# Altium integrated library Xilinx Spartan-3.IntLib: 174 symbols (part 7 of 42)
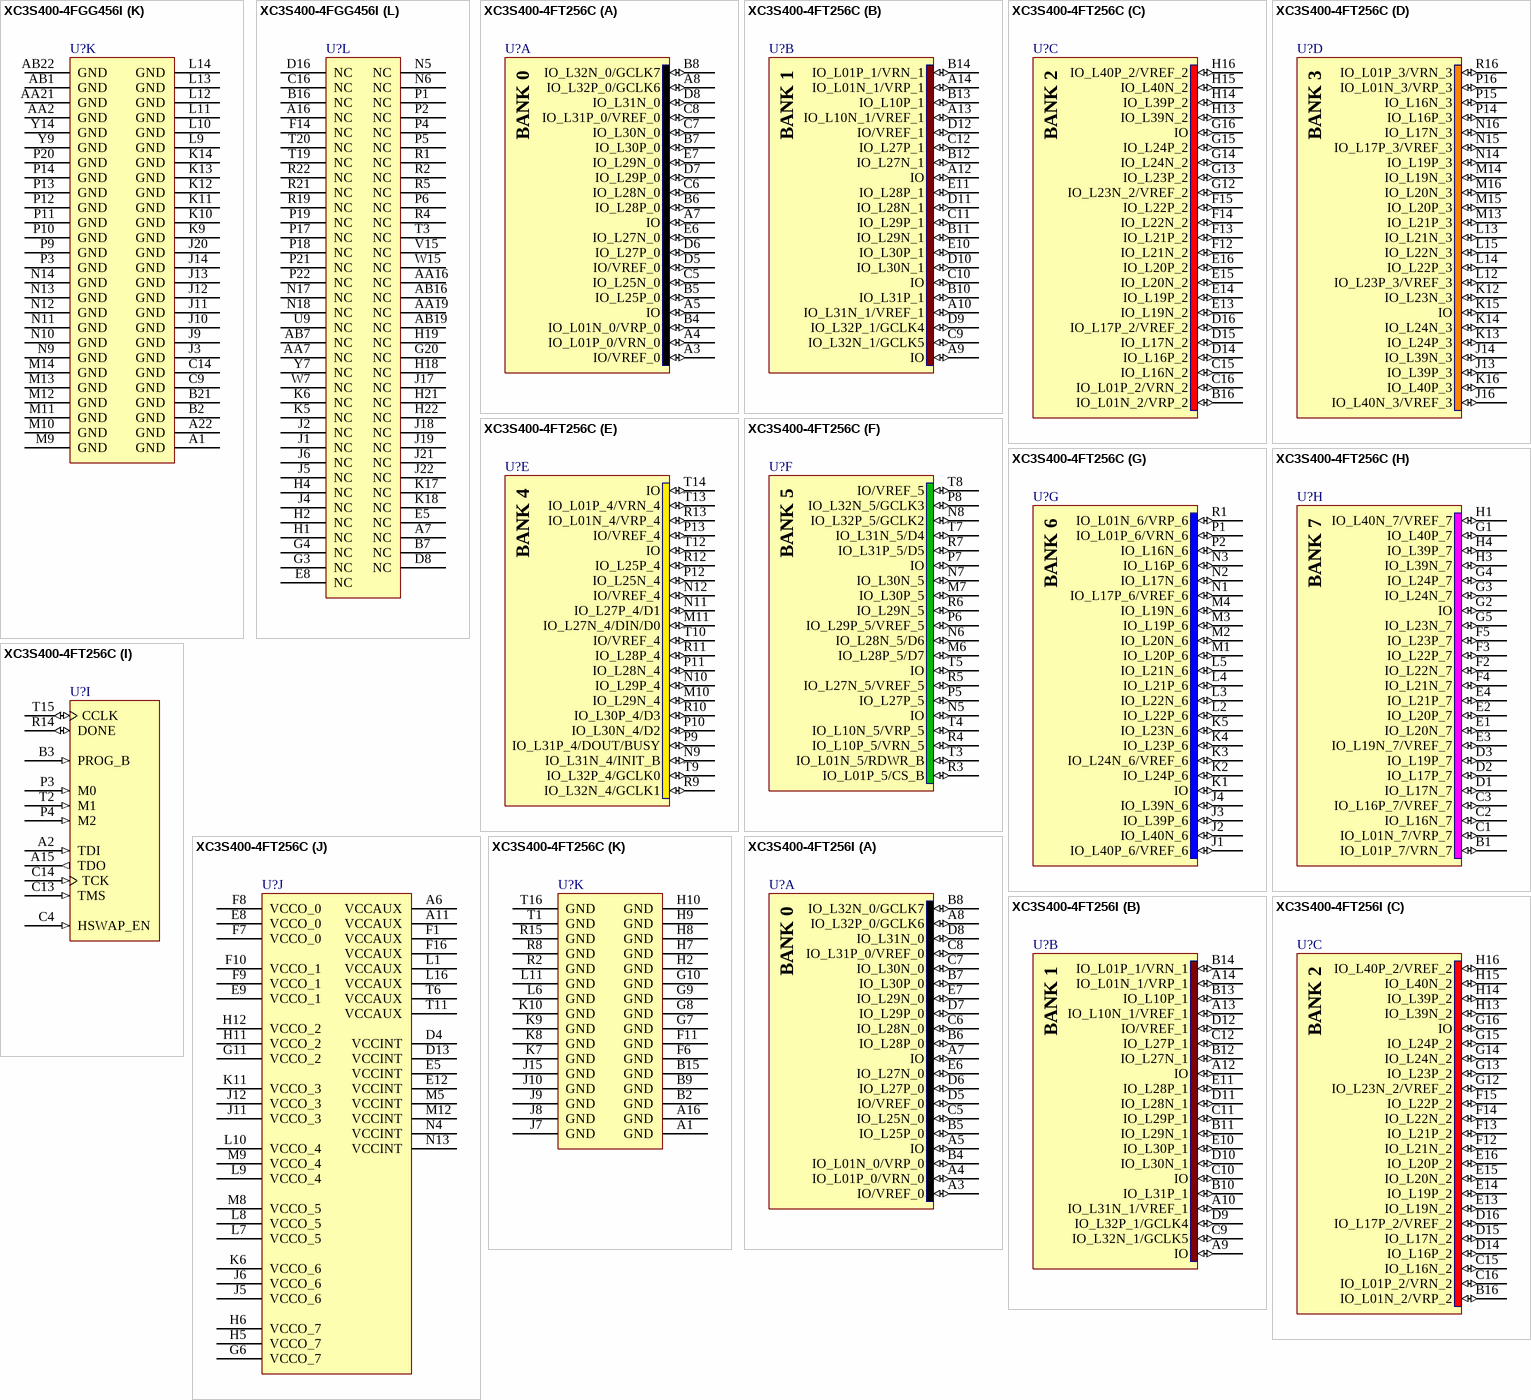
[diagram p198: symbols XC3S400-4FGG456I to XC3S400-4FT256I]

## XC3S400-4FGG456I
designator U?
Spartan-3 1.2V FPGA, 264 User I/Os, 456-Ball FBGA, Standard Performance, Industrial Grade, Pb-Free; OrderingInformation: Additional code may have to be appended for different mask revision devices.; DatasheetVersion: ver2.5, Dec-2009; PackageVersion: ver1.2.1, Mar-2005; PackageReference: FGG456; PackageDescription: 456-Ball Fine Pitch Ball Grid Array (FGG456) - Pb-Free; Code_JEDEC: MO-151-AAJ-1 (Depopulated); ComponentLink1Description: Manufacturer URL; ComponentLink1URL: http://www.xilinx.com/; ComponentLink2Description: Spartan-3 Datasheet; ComponentLink2URL: http://www.xilinx.com/support/documentation/data_sheets/ds099.pdf; ComponentLink3Description: FGG456 Package Drawing; ComponentLink3URL: http://www.xilinx.com/support/documentation/package_specs/fg456.pdf; ComponentLink4Description: Spartan-3 Documents; ComponentLink4URL: http://www.xilinx.com/support/documentation/spartan-3.htm
footprint FGG456 (BGA, 456-Leads, Body 23x23mm, Pitch 1mm)
part A pins: A3 IO/VREF_0 (io), A4 IO_L01P_0/VRN_0 (io), A5 IO_L09P_0 (io), A8 IO_L24P_0 (io), A9 IO_L27P_0 (io), A10 IO (io), A11 IO_L32P_0/GCLK6 (io), B4 IO_L01N_0/VRP_0 (io), B5 IO_L09N_0 (io), B6 IO_L15P_0 (io), B8 IO_L24N_0 (io), B9 IO_L27N_0 (io), B10 IO_L29P_0 (io), B11 IO_L32N_0/GCLK7 (io), C5 IO_L06P_0 (io), C6 IO_L15N_0 (io), C7 IO/VREF_0 (io), C10 IO_L29N_0 (io), C11 IO_L31P_0/VREF_0 (io), D5 IO_L06N_0 (io), D6 IO_L10P_0 (io), D7 IO_L16P_0 (io), D9 IO (io), D10 IO (io), D11 IO_L31N_0 (io), E6 IO_L10N_0 (io), E7 IO_L16N_0 (io), E9 IO_L25P_0 (io), E10 IO_L28P_0 (io), E11 IO_L30P_0 (io), F6 IO (io), F7 IO/VREF_0 (io), F9 IO_L25N_0 (io), F10 IO_L28N_0 (io), F11 IO_L30N_0 (io)
part B pins: A12 IO (io), A13 IO_L30N_1 (io), A14 IO_L28N_1 (io), A15 IO_L25P_1 (io), A18 IO_L10N_1/VREF_1 (io), A19 IO_L06N_1/VREF_1 (io), B12 IO_L32N_1/GCLK5 (io), B13 IO_L30P_1 (io), B14 IO_L28P_1 (io), B15 IO_L25N_1 (io), B17 IO_L16N_1 (io), B18 IO_L10P_1 (io), B19 IO_L06P_1 (io), B20 IO_L01P_1/VRN_1 (io), C12 IO_L32P_1/GCLK4 (io), C13 IO_L29N_1 (io), C17 IO_L16P_1 (io), C18 IO_L09N_1 (io), C19 IO_L01N_1/VRP_1 (io), D12 IO_L31N_1/VREF_1 (io), D13 IO_L29P_1 (io), D14 IO_L27N_1 (io), D15 IO_L24N_1 (io), D17 IO_L15N_1 (io), D18 IO_L09P_1 (io), E12 IO_L31P_1 (io), E13 IO/VREF_1 (io), E14 IO_L27P_1 (io), E15 IO_L24P_1 (io), E16 IO (io), E17 IO_L15P_1 (io), F12 IO (io), F13 IO (io), F16 IO (io), F17 IO (io)
part C pins: C20 IO_L01N_2/VRP_2 (io), C21 IO_L01P_2/VRN_2 (io), C22 IO (io), D19 IO_L16P_2 (io), D20 IO_L16N_2 (io), D21 IO_L17N_2 (io), D22 IO_L17P_2/VREF_2 (io), E18 IO_L19N_2 (io), E19 IO_L20N_2 (io), E20 IO_L20P_2 (io), E21 IO_L21N_2 (io), E22 IO_L21P_2 (io), F18 IO_L19P_2 (io), F19 IO_L23N_2/VREF_2 (io), F20 IO_L24N_2 (io), F21 IO_L24P_2 (io), G17 IO_L22N_2 (io), G18 IO_L22P_2 (io), G19 IO_L23P_2 (io), G21 IO_L27N_2 (io), G22 IO_L27P_2 (io), K19 IO_L34N_2/VREF_2 (io), K20 IO_L34P_2 (io), K21 IO_L35N_2 (io), K22 IO_L35P_2 (io), L17 IO_L38N_2 (io), L18 IO_L38P_2 (io), L19 IO_L39N_2 (io), L20 IO_L39P_2 (io), L21 IO_L40N_2 (io), L22 IO_L40P_2/VREF_2 (io)
part D pins: M17 IO_L38P_3 (io), M18 IO_L38N_3 (io), M19 IO_L39P_3 (io), M20 IO_L39N_3 (io), M21 IO_L40P_3 (io), M22 IO_L40N_3/VREF_3 (io), N19 IO_L34P_3/VREF_3 (io), N20 IO_L34N_3 (io), N21 IO_L35P_3 (io), N22 IO_L35N_3 (io), R18 IO_L24N_3 (io), T17 IO_L22N_3 (io), T18 IO_L24P_3 (io), T21 IO_L27P_3 (io), T22 IO_L27N_3 (io), U18 IO_L22P_3 (io), U19 IO_L20N_3 (io), U20 IO_L23P_3/VREF_3 (io), U21 IO_L23N_3 (io), V19 IO_L17N_3 (io), V20 IO_L20P_3 (io), V21 IO_L21P_3 (io), V22 IO_L21N_3 (io), W19 IO_L17P_3/VREF_3 (io), W20 IO_L19P_3 (io), W21 IO_L19N_3 (io), W22 IO_L16N_3 (io), Y19 IO_L01P_3/VRN_3 (io), Y20 IO_L01N_3/VRP_3 (io), Y21 IO (io), Y22 IO_L16P_3 (io)
part E pins: AA12 IO_L32N_4/GCLK1 (io), AA13 IO_L29P_4 (io), AA14 IO_L27N_4/DIN/D0 (io), AA15 IO_L24N_4 (io), AA17 IO_L15P_4 (io), AA18 IO_L09N_4 (io), AA20 IO_L01N_4/VRP_4 (io), AB12 IO_L32P_4/GCLK0 (io), AB13 IO/VREF_4 (io), AB14 IO_L27P_4/D1 (io), AB15 IO_L24P_4 (io), AB18 IO_L09P_4 (io), AB20 IO_L01P_4/VRN_4 (io), U12 IO_L30N_4/D2 (io), U13 IO_L28N_4 (io), U14 IO_L25N_4 (io), U16 IO (io), U17 IO (io), V12 IO_L30P_4/D3 (io), V13 IO_L28P_4 (io), V14 IO_L25P_4 (io), V16 IO_L16N_4 (io), V17 IO_L10N_4 (io), V18 IO/VREF_4 (io), W12 IO_L31N_4/INIT_B (io), W13 IO (io), W14 IO (io), W16 IO_L16P_4 (io), W17 IO_L10P_4 (io), W18 IO_L06N_4/VREF_4 (io), Y12 IO_L31P_4/DOUT/BUSY (io), Y13 IO_L29N_4 (io), Y16 IO/VREF_4 (io), Y17 IO_L15N_4 (io), Y18 IO_L06P_4 (io)
part F pins: AA3 IO_L01P_5/CS_B (io), AA4 IO_L06P_5 (io), AA5 IO_L10P_5/VRN_5 (io), AA6 IO_L16N_5 (io), AA8 IO_L25P_5 (io), AA9 IO_L28P_5/D7 (io), AA10 IO_L30P_5 (io), AA11 IO_L32N_5/GCLK3 (io), AB4 IO_L06N_5 (io), AB5 IO_L10N_5/VRP_5 (io), AB8 IO_L25N_5 (io), AB9 IO_L28N_5/D6 (io), AB10 IO_L30N_5 (io), AB11 IO/VREF_5 (io), U6 IO/VREF_5 (io), U7 IO (io), U10 IO (io), U11 IO (io), V6 IO_L15P_5 (io), V7 IO (io), V8 IO_L24P_5 (io), V9 IO_L27P_5 (io), V10 IO (io), V11 IO_L31P_5/D5 (io), W5 IO_L09P_5 (io), W6 IO_L15N_5 (io), W8 IO_L24N_5 (io), W9 IO_L27N_5/VREF_5 (io), W10 IO_L29P_5/VREF_5 (io), W11 IO_L31N_5/D4 (io), Y4 IO_L01N_5/RDWR_B (io), Y5 IO_L09N_5 (io), Y6 IO_L16P_5 (io), Y10 IO_L29N_5 (io), Y11 IO_L32P_5/GCLK2 (io)
part G pins: M1 IO_L40P_6/VREF_6 (io), M2 IO_L40N_6 (io), M3 IO_L39P_6 (io), M4 IO_L39N_6 (io), M5 IO_L38P_6 (io), M6 IO_L38N_6 (io), N1 IO_L35P_6 (io), N2 IO_L35N_6 (io), N3 IO_L34P_6 (io), N4 IO_L34N_6/VREF_6 (io), T1 IO_L27P_6 (io), T2 IO_L27N_6 (io), T4 IO_L23P_6 (io), T5 IO_L22P_6 (io), T6 IO_L22N_6 (io), U2 IO_L24P_6 (io), U3 IO_L24N_6/VREF_6 (io), U4 IO_L23N_6 (io), U5 IO_L19P_6 (io), V1 IO_L21P_6 (io), V2 IO_L21N_6 (io), V3 IO_L20P_6 (io), V4 IO_L20N_6 (io), V5 IO_L19N_6 (io), W1 IO_L17P_6/VREF_6 (io), W2 IO_L17N_6 (io), W3 IO_L16P_6 (io), W4 IO_L16N_6 (io), Y1 IO (io), Y2 IO_L01P_6/VRN_6 (io), Y3 IO_L01N_6/VRP_6 (io)
part H pins: C1 IO_L16P_7/VREF_7 (io), C2 IO (io), C3 IO_L01N_7/VRP_7 (io), C4 IO_L01P_7/VRN_7 (io), D1 IO_L16N_7 (io), D2 IO_L19P_7 (io), D3 IO_L19N_7/VREF_7 (io), D4 IO_L17P_7 (io), E1 IO_L21N_7 (io), E2 IO_L21P_7 (io), E3 IO_L20P_7 (io), E4 IO_L17N_7 (io), F2 IO_L23N_7 (io), F3 IO_L23P_7 (io), F4 IO_L20N_7 (io), F5 IO_L22P_7 (io), G1 IO_L27N_7 (io), G2 IO_L27P_7/VREF_7 (io), G5 IO_L24P_7 (io), G6 IO_L22N_7 (io), H5 IO_L24N_7 (io), K1 IO_L35N_7 (io), K2 IO_L35P_7 (io), K3 IO_L34N_7 (io), K4 IO_L34P_7 (io), L1 IO_L40N_7/VREF_7 (io), L2 IO_L40P_7 (io), L3 IO_L39N_7 (io), L4 IO_L39P_7 (io), L5 IO_L38N_7 (io), L6 IO_L38P_7 (io)
part I pins: A2 PROG_B (in), A20 TMS (in), A21 TCK (in), AA1 M1 (in), AA22 CCLK (io), AB2 M0 (in), AB3 M2 (in), AB21 DONE (io), B1 TDI (in), B3 HSWAP_EN (in), B22 TDO (out)
part J pins: A6 VCCAUX (power), A17 VCCAUX (power), AB6 VCCAUX (power), AB17 VCCAUX (power), C8 VCCO_0 (power), C15 VCCO_1 (power), F1 VCCAUX (power), F8 VCCO_0 (power), F15 VCCO_1 (power), F22 VCCAUX (power), G7 VCCINT (power), G8 VCCINT (power), G9 VCCO_0 (power), G10 VCCO_0 (power), G11 VCCO_0 (power), G12 VCCO_1 (power), G13 VCCO_1 (power), G14 VCCO_1 (power), G15 VCCINT (power), G16 VCCINT (power), H3 VCCO_7 (power), H6 VCCO_7 (power), H7 VCCINT (power), H16 VCCINT (power), H17 VCCO_2 (power), H20 VCCO_2 (power), J7 VCCO_7 (power), J16 VCCO_2 (power), K7 VCCO_7 (power), K16 VCCO_2 (power), L7 VCCO_7 (power), L16 VCCO_2 (power), M7 VCCO_6 (power), M16 VCCO_3 (power), N7 VCCO_6 (power), N16 VCCO_3 (power), P7 VCCO_6 (power), P16 VCCO_3 (power), R3 VCCO_6 (power), R6 VCCO_6 (power), R7 VCCINT (power), R16 VCCINT (power), R17 VCCO_3 (power), R20 VCCO_3 (power), T7 VCCINT (power), T8 VCCINT (power), T9 VCCO_5 (power), T10 VCCO_5 (power), T11 VCCO_5 (power), T12 VCCO_4 (power), T13 VCCO_4 (power), T14 VCCO_4 (power), T15 VCCINT (power), T16 VCCINT (power), U1 VCCAUX (power), U8 VCCO_5 (power), U15 VCCO_4 (power), U22 VCCAUX (power), Y8 VCCO_5 (power), Y15 VCCO_4 (power)
part K pins: A1 GND (power), A22 GND (power), AA2 GND (power), AA21 GND (power), AB1 GND (power), AB22 GND (power), B2 GND (power), B21 GND (power), C9 GND (power), C14 GND (power), J3 GND (power), J9 GND (power), J10 GND (power), J11 GND (power), J12 GND (power), J13 GND (power), J14 GND (power), J20 GND (power), K9 GND (power), K10 GND (power), K11 GND (power), K12 GND (power), K13 GND (power), K14 GND (power), L9 GND (power), L10 GND (power), L11 GND (power), L12 GND (power), L13 GND (power), L14 GND (power), M9 GND (power), M10 GND (power), M11 GND (power), M12 GND (power), M13 GND (power), M14 GND (power), N9 GND (power), N10 GND (power), N11 GND (power), N12 GND (power), N13 GND (power), N14 GND (power), P3 GND (power), P9 GND (power), P10 GND (power), P11 GND (power), P12 GND (power), P13 GND (power), P14 GND (power), P20 GND (power), Y9 GND (power), Y14 GND (power)
part L pins: A7 NC, A16 NC, AA7 NC, AA16 NC, AA19 NC, AB7 NC, AB16 NC, AB19 NC, B7 NC, B16 NC, C16 NC, D8 NC, D16 NC, E5 NC, E8 NC, F14 NC, G3 NC, G4 NC, G20 NC, H1 NC, H2 NC, H4 NC, H18 NC, H19 NC, H21 NC, H22 NC, J1 NC, J2 NC, J4 NC, J5 NC, J6 NC, J17 NC, J18 NC, J19 NC, J21 NC, J22 NC, K5 NC, K6 NC, K17 NC, K18 NC, N5 NC, N6 NC, N17 NC, N18 NC, P1 NC, P2 NC, P4 NC, P5 NC, P6 NC, P17 NC, P18 NC, P19 NC, P21 NC, P22 NC, R1 NC, R2 NC, R4 NC, R5 NC, R19 NC, R21 NC, R22 NC, T3 NC, T19 NC, T20 NC, U9 NC, V15 NC, W7 NC, W15 NC, Y7 NC
part A text: BANK 0
part B text: BANK 1
part C text: BANK 2
part D text: BANK 3
part E text: BANK 4
part F text: BANK 5
part G text: BANK 6
part H text: BANK 7

## XC3S400-4FT256C
designator U?
Spartan-3 1.2V FPGA, 173 User I/Os, 256-Ball FTBGA, Standard Performance, Commercial Grade; OrderingInformation: Additional code may have to be appended for different mask revision devices.; DatasheetVersion: ver2.5, Dec-2009; PackageVersion: ver1.3, Oct-2007; PackageReference: FT256; PackageDescription: 256-Ball Fine Pitch Thin Ball Grid Array 1.00 mm Pitch (FT256); Code_JEDEC: MS-034-AAF-1*; ComponentLink1Description: Manufacturer URL; ComponentLink1URL: http://www.xilinx.com/; ComponentLink2Description: Spartan-3 Datasheet; ComponentLink2URL: http://www.xilinx.com/support/documentation/data_sheets/ds099.pdf; ComponentLink3Description: FT256 Package Drawing; ComponentLink3URL: http://www.xilinx.com/support/documentation/package_specs/ft256.pdf; ComponentLink4Description: Spartan-3 Documents; ComponentLink4URL: http://www.xilinx.com/support/documentation/spartan-3.htm
footprint FT256 (BGA, 256-Leads, Body 17x17mm, Pitch 1mm)
part A pins: A3 IO/VREF_0 (io), A4 IO_L01P_0/VRN_0 (io), A5 IO (io), A7 IO (io), A8 IO_L32P_0/GCLK6 (io), B4 IO_L01N_0/VRP_0 (io), B5 IO_L25P_0 (io), B6 IO_L28P_0 (io), B7 IO_L30P_0 (io), B8 IO_L32N_0/GCLK7 (io), C5 IO_L25N_0 (io), C6 IO_L28N_0 (io), C7 IO_L30N_0 (io), C8 IO_L31P_0/VREF_0 (io), D5 IO/VREF_0 (io), D6 IO_L27P_0 (io), D7 IO_L29P_0 (io), D8 IO_L31N_0 (io), E6 IO_L27N_0 (io), E7 IO_L29N_0 (io)
part B pins: A9 IO (io), A10 IO_L31N_1/VREF_1 (io), A12 IO (io), A13 IO_L10N_1/VREF_1 (io), A14 IO_L01N_1/VRP_1 (io), B10 IO_L31P_1 (io), B11 IO_L29N_1 (io), B12 IO_L27N_1 (io), B13 IO_L10P_1 (io), B14 IO_L01P_1/VRN_1 (io), C9 IO_L32N_1/GCLK5 (io), C10 IO (io), C11 IO_L29P_1 (io), C12 IO_L27P_1 (io), D9 IO_L32P_1/GCLK4 (io), D10 IO_L30N_1 (io), D11 IO_L28N_1 (io), D12 IO/VREF_1 (io), E10 IO_L30P_1 (io), E11 IO_L28P_1 (io)
part C pins: B16 IO_L01N_2/VRP_2 (io), C15 IO_L16N_2 (io), C16 IO_L01P_2/VRN_2 (io), D14 IO_L16P_2 (io), D15 IO_L17N_2 (io), D16 IO_L17P_2/VREF_2 (io), E13 IO_L19N_2 (io), E14 IO_L19P_2 (io), E15 IO_L20N_2 (io), E16 IO_L20P_2 (io), F12 IO_L21N_2 (io), F13 IO_L21P_2 (io), F14 IO_L22N_2 (io), F15 IO_L22P_2 (io), G12 IO_L23N_2/VREF_2 (io), G13 IO_L23P_2 (io), G14 IO_L24N_2 (io), G15 IO_L24P_2 (io), G16 IO (io), H13 IO_L39N_2 (io), H14 IO_L39P_2 (io), H15 IO_L40N_2 (io), H16 IO_L40P_2/VREF_2 (io)
part D pins: J13 IO_L39P_3 (io), J14 IO_L39N_3 (io), J16 IO_L40N_3/VREF_3 (io), K12 IO_L23N_3 (io), K13 IO_L24P_3 (io), K14 IO_L24N_3 (io), K15 IO (io), K16 IO_L40P_3 (io), L12 IO_L23P_3/VREF_3 (io), L13 IO_L21N_3 (io), L14 IO_L22P_3 (io), L15 IO_L22N_3 (io), M13 IO_L21P_3 (io), M14 IO_L19N_3 (io), M15 IO_L20P_3 (io), M16 IO_L20N_3 (io), N14 IO_L19P_3 (io), N15 IO_L17P_3/VREF_3 (io), N16 IO_L17N_3 (io), P14 IO_L16P_3 (io), P15 IO_L16N_3 (io), P16 IO_L01N_3/VRP_3 (io), R16 IO_L01P_3/VRN_3 (io)
part E pins: M10 IO_L29N_4 (io), M11 IO_L27N_4/DIN/D0 (io), N9 IO_L31N_4/INIT_B (io), N10 IO_L29P_4 (io), N11 IO_L27P_4/D1 (io), N12 IO/VREF_4 (io), P9 IO_L31P_4/DOUT/BUSY (io), P10 IO_L30N_4/D2 (io), P11 IO_L28N_4 (io), P12 IO_L25N_4 (io), P13 IO/VREF_4 (io), R9 IO_L32N_4/GCLK1 (io), R10 IO_L30P_4/D3 (io), R11 IO_L28P_4 (io), R12 IO_L25P_4 (io), R13 IO_L01N_4/VRP_4 (io), T9 IO_L32P_4/GCLK0 (io), T10 IO/VREF_4 (io), T12 IO (io), T13 IO_L01P_4/VRN_4 (io), T14 IO (io)
part F pins: M6 IO_L28P_5/D7 (io), M7 IO_L30P_5 (io), N5 IO (io), N6 IO_L28N_5/D6 (io), N7 IO_L30N_5 (io), N8 IO_L32P_5/GCLK2 (io), P5 IO_L27P_5 (io), P6 IO_L29P_5/VREF_5 (io), P7 IO (io), P8 IO_L32N_5/GCLK3 (io), R3 IO_L01P_5/CS_B (io), R4 IO_L10P_5/VRN_5 (io), R5 IO_L27N_5/VREF_5 (io), R6 IO_L29N_5 (io), R7 IO_L31P_5/D5 (io), T3 IO_L01N_5/RDWR_B (io), T4 IO_L10N_5/VRP_5 (io), T5 IO (io), T7 IO_L31N_5/D4 (io), T8 IO/VREF_5 (io)
part G pins: J1 IO_L40P_6/VREF_6 (io), J2 IO_L40N_6 (io), J3 IO_L39P_6 (io), J4 IO_L39N_6 (io), K1 IO (io), K2 IO_L24P_6 (io), K3 IO_L24N_6/VREF_6 (io), K4 IO_L23P_6 (io), K5 IO_L23N_6 (io), L2 IO_L22P_6 (io), L3 IO_L22N_6 (io), L4 IO_L21P_6 (io), L5 IO_L21N_6 (io), M1 IO_L20P_6 (io), M2 IO_L20N_6 (io), M3 IO_L19P_6 (io), M4 IO_L19N_6 (io), N1 IO_L17P_6/VREF_6 (io), N2 IO_L17N_6 (io), N3 IO_L16P_6 (io), P1 IO_L01P_6/VRN_6 (io), P2 IO_L16N_6 (io), R1 IO_L01N_6/VRP_6 (io)
part H pins: B1 IO_L01P_7/VRN_7 (io), C1 IO_L01N_7/VRP_7 (io), C2 IO_L16N_7 (io), C3 IO_L16P_7/VREF_7 (io), D1 IO_L17N_7 (io), D2 IO_L17P_7 (io), D3 IO_L19P_7 (io), E1 IO_L20N_7 (io), E2 IO_L20P_7 (io), E3 IO_L19N_7/VREF_7 (io), E4 IO_L21P_7 (io), F2 IO_L22N_7 (io), F3 IO_L22P_7 (io), F4 IO_L21N_7 (io), F5 IO_L23P_7 (io), G1 IO_L40P_7 (io), G2 IO (io), G3 IO_L24N_7 (io), G4 IO_L24P_7 (io), G5 IO_L23N_7 (io), H1 IO_L40N_7/VREF_7 (io), H3 IO_L39N_7 (io), H4 IO_L39P_7 (io)
part I pins: A2 TDI (in), A15 TDO (out), B3 PROG_B (in), C4 HSWAP_EN (in), C13 TMS (in), C14 TCK (in), P3 M0 (in), P4 M2 (in), R14 DONE (io), T2 M1 (in), T15 CCLK (io)
part J pins: A6 VCCAUX (power), A11 VCCAUX (power), D4 VCCINT (power), D13 VCCINT (power), E5 VCCINT (power), E8 VCCO_0 (power), E9 VCCO_1 (power), E12 VCCINT (power), F1 VCCAUX (power), F7 VCCO_0 (power), F8 VCCO_0 (power), F9 VCCO_1 (power), F10 VCCO_1 (power), F16 VCCAUX (power), G6 VCCO_7 (power), G11 VCCO_2 (power), H5 VCCO_7 (power), H6 VCCO_7 (power), H11 VCCO_2 (power), H12 VCCO_2 (power), J5 VCCO_6 (power), J6 VCCO_6 (power), J11 VCCO_3 (power), J12 VCCO_3 (power), K6 VCCO_6 (power), K11 VCCO_3 (power), L1 VCCAUX (power), L7 VCCO_5 (power), L8 VCCO_5 (power), L9 VCCO_4 (power), L10 VCCO_4 (power), L16 VCCAUX (power), M5 VCCINT (power), M8 VCCO_5 (power), M9 VCCO_4 (power), M12 VCCINT (power), N4 VCCINT (power), N13 VCCINT (power), T6 VCCAUX (power), T11 VCCAUX (power)
part K pins: A1 GND (power), A16 GND (power), B2 GND (power), B9 GND (power), B15 GND (power), F6 GND (power), F11 GND (power), G7 GND (power), G8 GND (power), G9 GND (power), G10 GND (power), H2 GND (power), H7 GND (power), H8 GND (power), H9 GND (power), H10 GND (power), J7 GND (power), J8 GND (power), J9 GND (power), J10 GND (power), J15 GND (power), K7 GND (power), K8 GND (power), K9 GND (power), K10 GND (power), L6 GND (power), L11 GND (power), R2 GND (power), R8 GND (power), R15 GND (power), T1 GND (power), T16 GND (power)
part A text: BANK 0
part B text: BANK 1
part C text: BANK 2
part D text: BANK 3
part E text: BANK 4
part F text: BANK 5
part G text: BANK 6
part H text: BANK 7

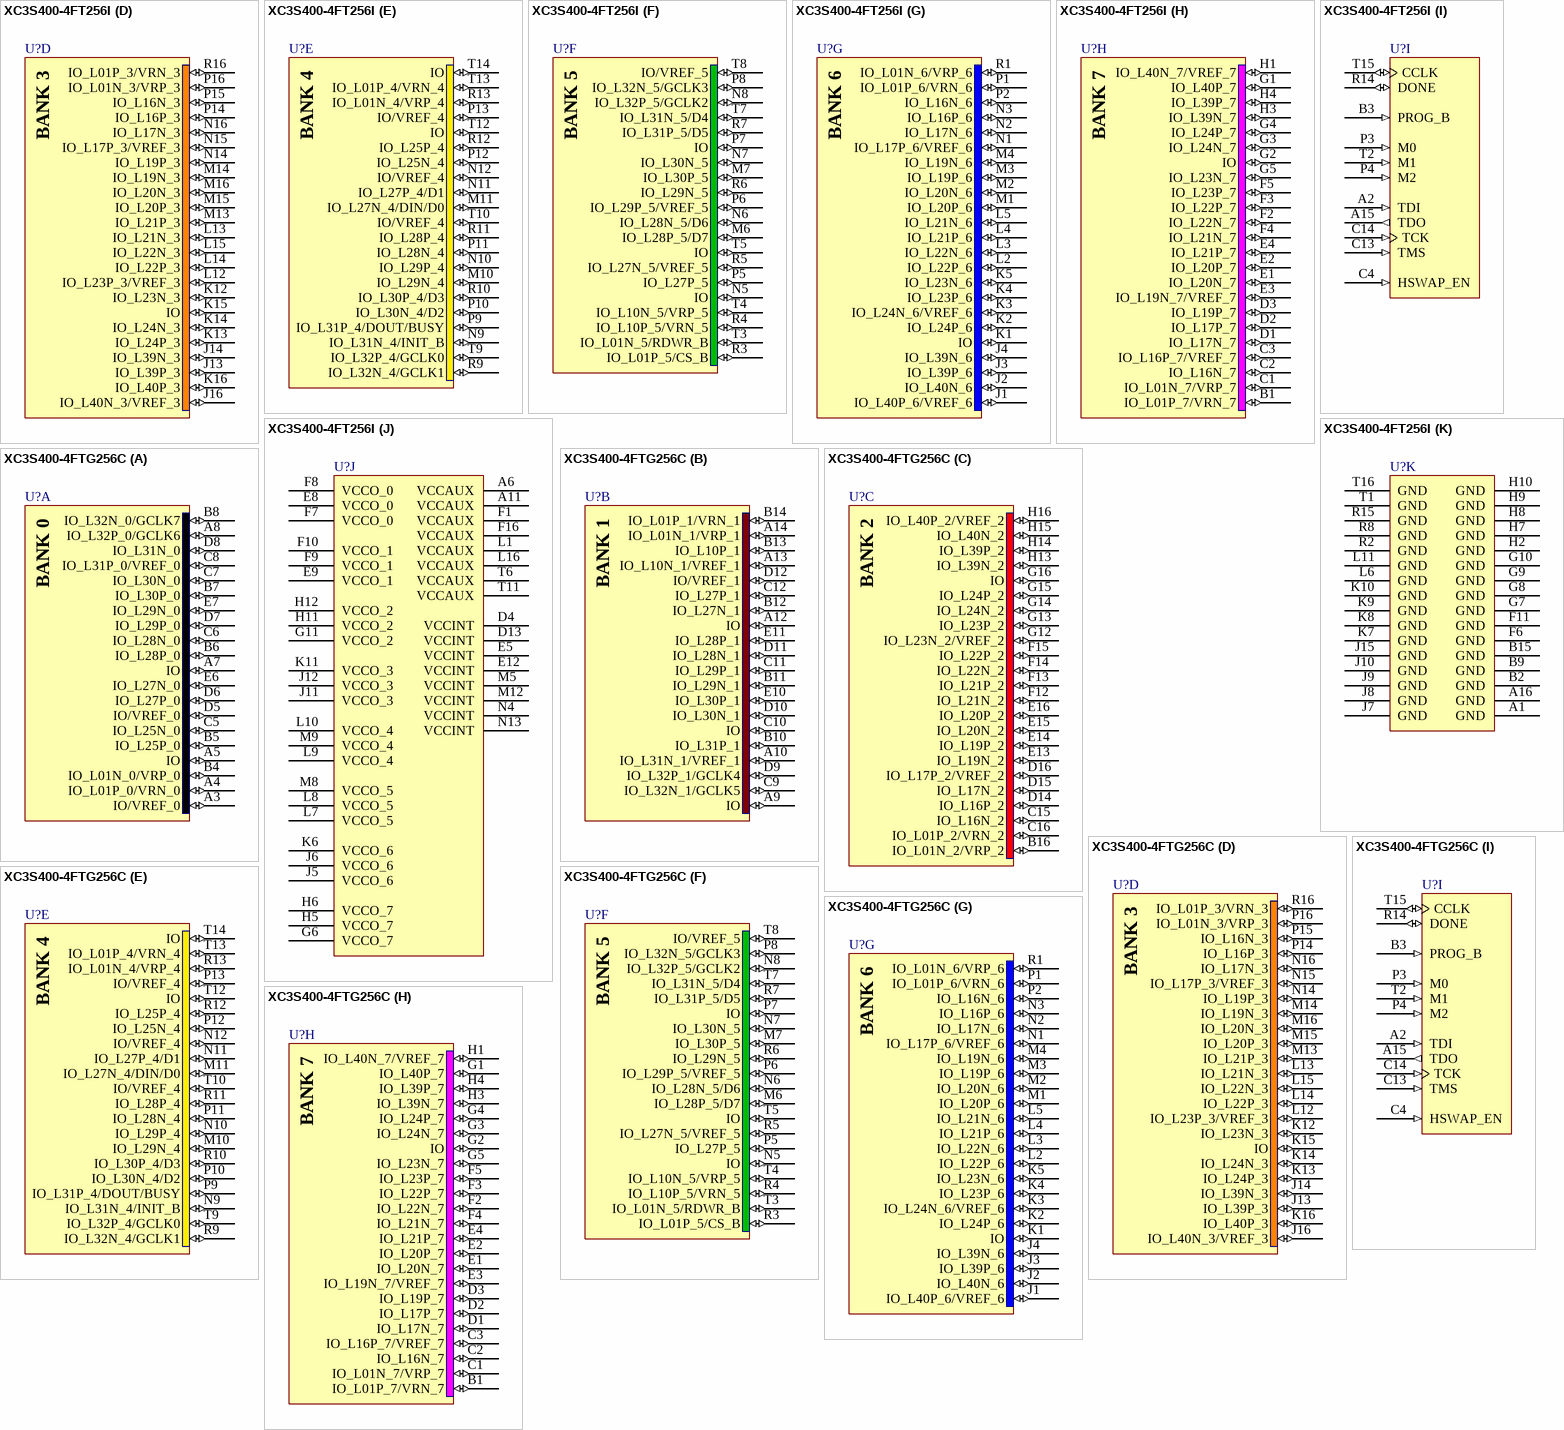
[diagram p30: symbols XC3S400-4FT256I to XC3S400-4FTG256C]

## XC3S400-4FT256I
designator U?
Spartan-3 1.2V FPGA, 173 User I/Os, 256-Ball FTBGA, Standard Performance, Industrial Grade; OrderingInformation: Additional code may have to be appended for different mask revision devices.; DatasheetVersion: ver2.5, Dec-2009; PackageVersion: ver1.3, Oct-2007; PackageReference: FT256; PackageDescription: 256-Ball Fine Pitch Thin Ball Grid Array 1.00 mm Pitch (FT256); Code_JEDEC: MS-034-AAF-1*; ComponentLink1Description: Manufacturer URL; ComponentLink1URL: http://www.xilinx.com/; ComponentLink2Description: Spartan-3 Datasheet; ComponentLink2URL: http://www.xilinx.com/support/documentation/data_sheets/ds099.pdf; ComponentLink3Description: FT256 Package Drawing; ComponentLink3URL: http://www.xilinx.com/support/documentation/package_specs/ft256.pdf; ComponentLink4Description: Spartan-3 Documents; ComponentLink4URL: http://www.xilinx.com/support/documentation/spartan-3.htm
footprint FT256 (BGA, 256-Leads, Body 17x17mm, Pitch 1mm)
part A pins: A3 IO/VREF_0 (io), A4 IO_L01P_0/VRN_0 (io), A5 IO (io), A7 IO (io), A8 IO_L32P_0/GCLK6 (io), B4 IO_L01N_0/VRP_0 (io), B5 IO_L25P_0 (io), B6 IO_L28P_0 (io), B7 IO_L30P_0 (io), B8 IO_L32N_0/GCLK7 (io), C5 IO_L25N_0 (io), C6 IO_L28N_0 (io), C7 IO_L30N_0 (io), C8 IO_L31P_0/VREF_0 (io), D5 IO/VREF_0 (io), D6 IO_L27P_0 (io), D7 IO_L29P_0 (io), D8 IO_L31N_0 (io), E6 IO_L27N_0 (io), E7 IO_L29N_0 (io)
part B pins: A9 IO (io), A10 IO_L31N_1/VREF_1 (io), A12 IO (io), A13 IO_L10N_1/VREF_1 (io), A14 IO_L01N_1/VRP_1 (io), B10 IO_L31P_1 (io), B11 IO_L29N_1 (io), B12 IO_L27N_1 (io), B13 IO_L10P_1 (io), B14 IO_L01P_1/VRN_1 (io), C9 IO_L32N_1/GCLK5 (io), C10 IO (io), C11 IO_L29P_1 (io), C12 IO_L27P_1 (io), D9 IO_L32P_1/GCLK4 (io), D10 IO_L30N_1 (io), D11 IO_L28N_1 (io), D12 IO/VREF_1 (io), E10 IO_L30P_1 (io), E11 IO_L28P_1 (io)
part C pins: B16 IO_L01N_2/VRP_2 (io), C15 IO_L16N_2 (io), C16 IO_L01P_2/VRN_2 (io), D14 IO_L16P_2 (io), D15 IO_L17N_2 (io), D16 IO_L17P_2/VREF_2 (io), E13 IO_L19N_2 (io), E14 IO_L19P_2 (io), E15 IO_L20N_2 (io), E16 IO_L20P_2 (io), F12 IO_L21N_2 (io), F13 IO_L21P_2 (io), F14 IO_L22N_2 (io), F15 IO_L22P_2 (io), G12 IO_L23N_2/VREF_2 (io), G13 IO_L23P_2 (io), G14 IO_L24N_2 (io), G15 IO_L24P_2 (io), G16 IO (io), H13 IO_L39N_2 (io), H14 IO_L39P_2 (io), H15 IO_L40N_2 (io), H16 IO_L40P_2/VREF_2 (io)
part D pins: J13 IO_L39P_3 (io), J14 IO_L39N_3 (io), J16 IO_L40N_3/VREF_3 (io), K12 IO_L23N_3 (io), K13 IO_L24P_3 (io), K14 IO_L24N_3 (io), K15 IO (io), K16 IO_L40P_3 (io), L12 IO_L23P_3/VREF_3 (io), L13 IO_L21N_3 (io), L14 IO_L22P_3 (io), L15 IO_L22N_3 (io), M13 IO_L21P_3 (io), M14 IO_L19N_3 (io), M15 IO_L20P_3 (io), M16 IO_L20N_3 (io), N14 IO_L19P_3 (io), N15 IO_L17P_3/VREF_3 (io), N16 IO_L17N_3 (io), P14 IO_L16P_3 (io), P15 IO_L16N_3 (io), P16 IO_L01N_3/VRP_3 (io), R16 IO_L01P_3/VRN_3 (io)
part E pins: M10 IO_L29N_4 (io), M11 IO_L27N_4/DIN/D0 (io), N9 IO_L31N_4/INIT_B (io), N10 IO_L29P_4 (io), N11 IO_L27P_4/D1 (io), N12 IO/VREF_4 (io), P9 IO_L31P_4/DOUT/BUSY (io), P10 IO_L30N_4/D2 (io), P11 IO_L28N_4 (io), P12 IO_L25N_4 (io), P13 IO/VREF_4 (io), R9 IO_L32N_4/GCLK1 (io), R10 IO_L30P_4/D3 (io), R11 IO_L28P_4 (io), R12 IO_L25P_4 (io), R13 IO_L01N_4/VRP_4 (io), T9 IO_L32P_4/GCLK0 (io), T10 IO/VREF_4 (io), T12 IO (io), T13 IO_L01P_4/VRN_4 (io), T14 IO (io)
part F pins: M6 IO_L28P_5/D7 (io), M7 IO_L30P_5 (io), N5 IO (io), N6 IO_L28N_5/D6 (io), N7 IO_L30N_5 (io), N8 IO_L32P_5/GCLK2 (io), P5 IO_L27P_5 (io), P6 IO_L29P_5/VREF_5 (io), P7 IO (io), P8 IO_L32N_5/GCLK3 (io), R3 IO_L01P_5/CS_B (io), R4 IO_L10P_5/VRN_5 (io), R5 IO_L27N_5/VREF_5 (io), R6 IO_L29N_5 (io), R7 IO_L31P_5/D5 (io), T3 IO_L01N_5/RDWR_B (io), T4 IO_L10N_5/VRP_5 (io), T5 IO (io), T7 IO_L31N_5/D4 (io), T8 IO/VREF_5 (io)
part G pins: J1 IO_L40P_6/VREF_6 (io), J2 IO_L40N_6 (io), J3 IO_L39P_6 (io), J4 IO_L39N_6 (io), K1 IO (io), K2 IO_L24P_6 (io), K3 IO_L24N_6/VREF_6 (io), K4 IO_L23P_6 (io), K5 IO_L23N_6 (io), L2 IO_L22P_6 (io), L3 IO_L22N_6 (io), L4 IO_L21P_6 (io), L5 IO_L21N_6 (io), M1 IO_L20P_6 (io), M2 IO_L20N_6 (io), M3 IO_L19P_6 (io), M4 IO_L19N_6 (io), N1 IO_L17P_6/VREF_6 (io), N2 IO_L17N_6 (io), N3 IO_L16P_6 (io), P1 IO_L01P_6/VRN_6 (io), P2 IO_L16N_6 (io), R1 IO_L01N_6/VRP_6 (io)
part H pins: B1 IO_L01P_7/VRN_7 (io), C1 IO_L01N_7/VRP_7 (io), C2 IO_L16N_7 (io), C3 IO_L16P_7/VREF_7 (io), D1 IO_L17N_7 (io), D2 IO_L17P_7 (io), D3 IO_L19P_7 (io), E1 IO_L20N_7 (io), E2 IO_L20P_7 (io), E3 IO_L19N_7/VREF_7 (io), E4 IO_L21P_7 (io), F2 IO_L22N_7 (io), F3 IO_L22P_7 (io), F4 IO_L21N_7 (io), F5 IO_L23P_7 (io), G1 IO_L40P_7 (io), G2 IO (io), G3 IO_L24N_7 (io), G4 IO_L24P_7 (io), G5 IO_L23N_7 (io), H1 IO_L40N_7/VREF_7 (io), H3 IO_L39N_7 (io), H4 IO_L39P_7 (io)
part I pins: A2 TDI (in), A15 TDO (out), B3 PROG_B (in), C4 HSWAP_EN (in), C13 TMS (in), C14 TCK (in), P3 M0 (in), P4 M2 (in), R14 DONE (io), T2 M1 (in), T15 CCLK (io)
part J pins: A6 VCCAUX (power), A11 VCCAUX (power), D4 VCCINT (power), D13 VCCINT (power), E5 VCCINT (power), E8 VCCO_0 (power), E9 VCCO_1 (power), E12 VCCINT (power), F1 VCCAUX (power), F7 VCCO_0 (power), F8 VCCO_0 (power), F9 VCCO_1 (power), F10 VCCO_1 (power), F16 VCCAUX (power), G6 VCCO_7 (power), G11 VCCO_2 (power), H5 VCCO_7 (power), H6 VCCO_7 (power), H11 VCCO_2 (power), H12 VCCO_2 (power), J5 VCCO_6 (power), J6 VCCO_6 (power), J11 VCCO_3 (power), J12 VCCO_3 (power), K6 VCCO_6 (power), K11 VCCO_3 (power), L1 VCCAUX (power), L7 VCCO_5 (power), L8 VCCO_5 (power), L9 VCCO_4 (power), L10 VCCO_4 (power), L16 VCCAUX (power), M5 VCCINT (power), M8 VCCO_5 (power), M9 VCCO_4 (power), M12 VCCINT (power), N4 VCCINT (power), N13 VCCINT (power), T6 VCCAUX (power), T11 VCCAUX (power)
part K pins: A1 GND (power), A16 GND (power), B2 GND (power), B9 GND (power), B15 GND (power), F6 GND (power), F11 GND (power), G7 GND (power), G8 GND (power), G9 GND (power), G10 GND (power), H2 GND (power), H7 GND (power), H8 GND (power), H9 GND (power), H10 GND (power), J7 GND (power), J8 GND (power), J9 GND (power), J10 GND (power), J15 GND (power), K7 GND (power), K8 GND (power), K9 GND (power), K10 GND (power), L6 GND (power), L11 GND (power), R2 GND (power), R8 GND (power), R15 GND (power), T1 GND (power), T16 GND (power)
part A text: BANK 0
part B text: BANK 1
part C text: BANK 2
part D text: BANK 3
part E text: BANK 4
part F text: BANK 5
part G text: BANK 6
part H text: BANK 7

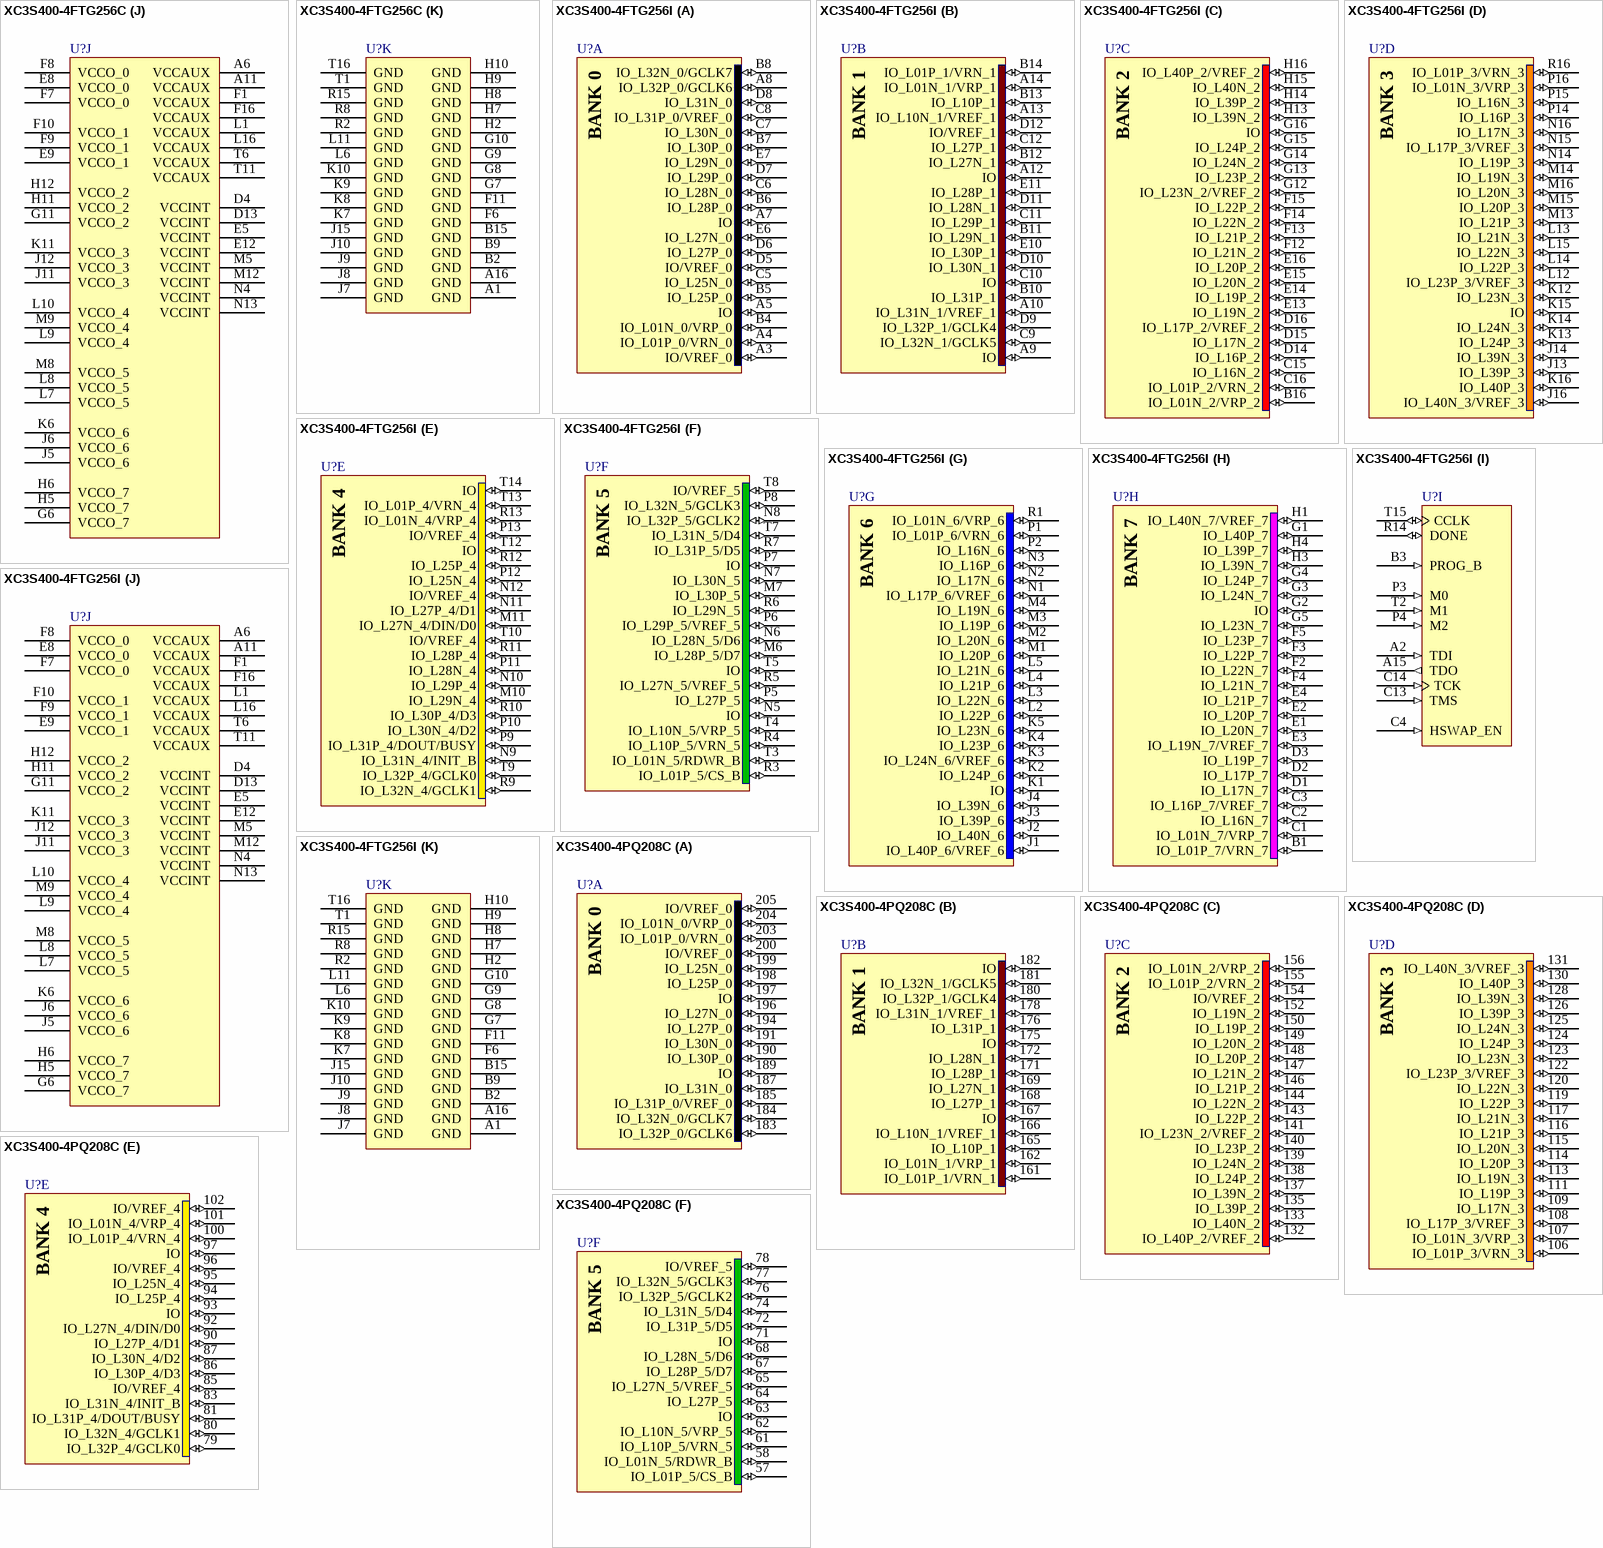
[diagram p31: symbols XC3S400-4FTG256C to XC3S400-4PQ208C]

## XC3S400-4FTG256C
designator U?
Spartan-3 1.2V FPGA, 173 User I/Os, 256-Ball FTBGA, Standard Performance, Commercial Grade, Pb-Free; OrderingInformation: Additional code may have to be appended for different mask revision devices.; DatasheetVersion: ver2.5, Dec-2009; PackageVersion: ver1.3, Oct-2007; PackageReference: FTG256; PackageDescription: 256-Ball Fine Pitch Thin Ball Grid Array 1.00 mm Pitch (FTG256) - Pb-Free; Code_JEDEC: MS-034-AAF-1*; ComponentLink1Description: Manufacturer URL; ComponentLink1URL: http://www.xilinx.com/; ComponentLink2Description: Spartan-3 Datasheet; ComponentLink2URL: http://www.xilinx.com/support/documentation/data_sheets/ds099.pdf; ComponentLink3Description: FTG256 Package Drawing; ComponentLink3URL: http://www.xilinx.com/support/documentation/package_specs/ft256.pdf; ComponentLink4Description: Spartan-3 Documents; ComponentLink4URL: http://www.xilinx.com/support/documentation/spartan-3.htm
footprint FTG256 (BGA, 256-Leads, Body 17x17mm, Pitch 1mm)
part A pins: A3 IO/VREF_0 (io), A4 IO_L01P_0/VRN_0 (io), A5 IO (io), A7 IO (io), A8 IO_L32P_0/GCLK6 (io), B4 IO_L01N_0/VRP_0 (io), B5 IO_L25P_0 (io), B6 IO_L28P_0 (io), B7 IO_L30P_0 (io), B8 IO_L32N_0/GCLK7 (io), C5 IO_L25N_0 (io), C6 IO_L28N_0 (io), C7 IO_L30N_0 (io), C8 IO_L31P_0/VREF_0 (io), D5 IO/VREF_0 (io), D6 IO_L27P_0 (io), D7 IO_L29P_0 (io), D8 IO_L31N_0 (io), E6 IO_L27N_0 (io), E7 IO_L29N_0 (io)
part B pins: A9 IO (io), A10 IO_L31N_1/VREF_1 (io), A12 IO (io), A13 IO_L10N_1/VREF_1 (io), A14 IO_L01N_1/VRP_1 (io), B10 IO_L31P_1 (io), B11 IO_L29N_1 (io), B12 IO_L27N_1 (io), B13 IO_L10P_1 (io), B14 IO_L01P_1/VRN_1 (io), C9 IO_L32N_1/GCLK5 (io), C10 IO (io), C11 IO_L29P_1 (io), C12 IO_L27P_1 (io), D9 IO_L32P_1/GCLK4 (io), D10 IO_L30N_1 (io), D11 IO_L28N_1 (io), D12 IO/VREF_1 (io), E10 IO_L30P_1 (io), E11 IO_L28P_1 (io)
part C pins: B16 IO_L01N_2/VRP_2 (io), C15 IO_L16N_2 (io), C16 IO_L01P_2/VRN_2 (io), D14 IO_L16P_2 (io), D15 IO_L17N_2 (io), D16 IO_L17P_2/VREF_2 (io), E13 IO_L19N_2 (io), E14 IO_L19P_2 (io), E15 IO_L20N_2 (io), E16 IO_L20P_2 (io), F12 IO_L21N_2 (io), F13 IO_L21P_2 (io), F14 IO_L22N_2 (io), F15 IO_L22P_2 (io), G12 IO_L23N_2/VREF_2 (io), G13 IO_L23P_2 (io), G14 IO_L24N_2 (io), G15 IO_L24P_2 (io), G16 IO (io), H13 IO_L39N_2 (io), H14 IO_L39P_2 (io), H15 IO_L40N_2 (io), H16 IO_L40P_2/VREF_2 (io)
part D pins: J13 IO_L39P_3 (io), J14 IO_L39N_3 (io), J16 IO_L40N_3/VREF_3 (io), K12 IO_L23N_3 (io), K13 IO_L24P_3 (io), K14 IO_L24N_3 (io), K15 IO (io), K16 IO_L40P_3 (io), L12 IO_L23P_3/VREF_3 (io), L13 IO_L21N_3 (io), L14 IO_L22P_3 (io), L15 IO_L22N_3 (io), M13 IO_L21P_3 (io), M14 IO_L19N_3 (io), M15 IO_L20P_3 (io), M16 IO_L20N_3 (io), N14 IO_L19P_3 (io), N15 IO_L17P_3/VREF_3 (io), N16 IO_L17N_3 (io), P14 IO_L16P_3 (io), P15 IO_L16N_3 (io), P16 IO_L01N_3/VRP_3 (io), R16 IO_L01P_3/VRN_3 (io)
part E pins: M10 IO_L29N_4 (io), M11 IO_L27N_4/DIN/D0 (io), N9 IO_L31N_4/INIT_B (io), N10 IO_L29P_4 (io), N11 IO_L27P_4/D1 (io), N12 IO/VREF_4 (io), P9 IO_L31P_4/DOUT/BUSY (io), P10 IO_L30N_4/D2 (io), P11 IO_L28N_4 (io), P12 IO_L25N_4 (io), P13 IO/VREF_4 (io), R9 IO_L32N_4/GCLK1 (io), R10 IO_L30P_4/D3 (io), R11 IO_L28P_4 (io), R12 IO_L25P_4 (io), R13 IO_L01N_4/VRP_4 (io), T9 IO_L32P_4/GCLK0 (io), T10 IO/VREF_4 (io), T12 IO (io), T13 IO_L01P_4/VRN_4 (io), T14 IO (io)
part F pins: M6 IO_L28P_5/D7 (io), M7 IO_L30P_5 (io), N5 IO (io), N6 IO_L28N_5/D6 (io), N7 IO_L30N_5 (io), N8 IO_L32P_5/GCLK2 (io), P5 IO_L27P_5 (io), P6 IO_L29P_5/VREF_5 (io), P7 IO (io), P8 IO_L32N_5/GCLK3 (io), R3 IO_L01P_5/CS_B (io), R4 IO_L10P_5/VRN_5 (io), R5 IO_L27N_5/VREF_5 (io), R6 IO_L29N_5 (io), R7 IO_L31P_5/D5 (io), T3 IO_L01N_5/RDWR_B (io), T4 IO_L10N_5/VRP_5 (io), T5 IO (io), T7 IO_L31N_5/D4 (io), T8 IO/VREF_5 (io)
part G pins: J1 IO_L40P_6/VREF_6 (io), J2 IO_L40N_6 (io), J3 IO_L39P_6 (io), J4 IO_L39N_6 (io), K1 IO (io), K2 IO_L24P_6 (io), K3 IO_L24N_6/VREF_6 (io), K4 IO_L23P_6 (io), K5 IO_L23N_6 (io), L2 IO_L22P_6 (io), L3 IO_L22N_6 (io), L4 IO_L21P_6 (io), L5 IO_L21N_6 (io), M1 IO_L20P_6 (io), M2 IO_L20N_6 (io), M3 IO_L19P_6 (io), M4 IO_L19N_6 (io), N1 IO_L17P_6/VREF_6 (io), N2 IO_L17N_6 (io), N3 IO_L16P_6 (io), P1 IO_L01P_6/VRN_6 (io), P2 IO_L16N_6 (io), R1 IO_L01N_6/VRP_6 (io)
part H pins: B1 IO_L01P_7/VRN_7 (io), C1 IO_L01N_7/VRP_7 (io), C2 IO_L16N_7 (io), C3 IO_L16P_7/VREF_7 (io), D1 IO_L17N_7 (io), D2 IO_L17P_7 (io), D3 IO_L19P_7 (io), E1 IO_L20N_7 (io), E2 IO_L20P_7 (io), E3 IO_L19N_7/VREF_7 (io), E4 IO_L21P_7 (io), F2 IO_L22N_7 (io), F3 IO_L22P_7 (io), F4 IO_L21N_7 (io), F5 IO_L23P_7 (io), G1 IO_L40P_7 (io), G2 IO (io), G3 IO_L24N_7 (io), G4 IO_L24P_7 (io), G5 IO_L23N_7 (io), H1 IO_L40N_7/VREF_7 (io), H3 IO_L39N_7 (io), H4 IO_L39P_7 (io)
part I pins: A2 TDI (in), A15 TDO (out), B3 PROG_B (in), C4 HSWAP_EN (in), C13 TMS (in), C14 TCK (in), P3 M0 (in), P4 M2 (in), R14 DONE (io), T2 M1 (in), T15 CCLK (io)
part J pins: A6 VCCAUX (power), A11 VCCAUX (power), D4 VCCINT (power), D13 VCCINT (power), E5 VCCINT (power), E8 VCCO_0 (power), E9 VCCO_1 (power), E12 VCCINT (power), F1 VCCAUX (power), F7 VCCO_0 (power), F8 VCCO_0 (power), F9 VCCO_1 (power), F10 VCCO_1 (power), F16 VCCAUX (power), G6 VCCO_7 (power), G11 VCCO_2 (power), H5 VCCO_7 (power), H6 VCCO_7 (power), H11 VCCO_2 (power), H12 VCCO_2 (power), J5 VCCO_6 (power), J6 VCCO_6 (power), J11 VCCO_3 (power), J12 VCCO_3 (power), K6 VCCO_6 (power), K11 VCCO_3 (power), L1 VCCAUX (power), L7 VCCO_5 (power), L8 VCCO_5 (power), L9 VCCO_4 (power), L10 VCCO_4 (power), L16 VCCAUX (power), M5 VCCINT (power), M8 VCCO_5 (power), M9 VCCO_4 (power), M12 VCCINT (power), N4 VCCINT (power), N13 VCCINT (power), T6 VCCAUX (power), T11 VCCAUX (power)
part K pins: A1 GND (power), A16 GND (power), B2 GND (power), B9 GND (power), B15 GND (power), F6 GND (power), F11 GND (power), G7 GND (power), G8 GND (power), G9 GND (power), G10 GND (power), H2 GND (power), H7 GND (power), H8 GND (power), H9 GND (power), H10 GND (power), J7 GND (power), J8 GND (power), J9 GND (power), J10 GND (power), J15 GND (power), K7 GND (power), K8 GND (power), K9 GND (power), K10 GND (power), L6 GND (power), L11 GND (power), R2 GND (power), R8 GND (power), R15 GND (power), T1 GND (power), T16 GND (power)
part A text: BANK 0
part B text: BANK 1
part C text: BANK 2
part D text: BANK 3
part E text: BANK 4
part F text: BANK 5
part G text: BANK 6
part H text: BANK 7

## XC3S400-4FTG256I
designator U?
Spartan-3 1.2V FPGA, 173 User I/Os, 256-Ball FTBGA, Standard Performance, Industrial Grade, Pb-Free; OrderingInformation: Additional code may have to be appended for different mask revision devices.; DatasheetVersion: ver2.5, Dec-2009; PackageVersion: ver1.3, Oct-2007; PackageReference: FTG256; PackageDescription: 256-Ball Fine Pitch Thin Ball Grid Array 1.00 mm Pitch (FTG256) - Pb-Free; Code_JEDEC: MS-034-AAF-1*; ComponentLink1Description: Manufacturer URL; ComponentLink1URL: http://www.xilinx.com/; ComponentLink2Description: Spartan-3 Datasheet; ComponentLink2URL: http://www.xilinx.com/support/documentation/data_sheets/ds099.pdf; ComponentLink3Description: FTG256 Package Drawing; ComponentLink3URL: http://www.xilinx.com/support/documentation/package_specs/ft256.pdf; ComponentLink4Description: Spartan-3 Documents; ComponentLink4URL: http://www.xilinx.com/support/documentation/spartan-3.htm
footprint FTG256 (BGA, 256-Leads, Body 17x17mm, Pitch 1mm)
part A pins: A3 IO/VREF_0 (io), A4 IO_L01P_0/VRN_0 (io), A5 IO (io), A7 IO (io), A8 IO_L32P_0/GCLK6 (io), B4 IO_L01N_0/VRP_0 (io), B5 IO_L25P_0 (io), B6 IO_L28P_0 (io), B7 IO_L30P_0 (io), B8 IO_L32N_0/GCLK7 (io), C5 IO_L25N_0 (io), C6 IO_L28N_0 (io), C7 IO_L30N_0 (io), C8 IO_L31P_0/VREF_0 (io), D5 IO/VREF_0 (io), D6 IO_L27P_0 (io), D7 IO_L29P_0 (io), D8 IO_L31N_0 (io), E6 IO_L27N_0 (io), E7 IO_L29N_0 (io)
part B pins: A9 IO (io), A10 IO_L31N_1/VREF_1 (io), A12 IO (io), A13 IO_L10N_1/VREF_1 (io), A14 IO_L01N_1/VRP_1 (io), B10 IO_L31P_1 (io), B11 IO_L29N_1 (io), B12 IO_L27N_1 (io), B13 IO_L10P_1 (io), B14 IO_L01P_1/VRN_1 (io), C9 IO_L32N_1/GCLK5 (io), C10 IO (io), C11 IO_L29P_1 (io), C12 IO_L27P_1 (io), D9 IO_L32P_1/GCLK4 (io), D10 IO_L30N_1 (io), D11 IO_L28N_1 (io), D12 IO/VREF_1 (io), E10 IO_L30P_1 (io), E11 IO_L28P_1 (io)
part C pins: B16 IO_L01N_2/VRP_2 (io), C15 IO_L16N_2 (io), C16 IO_L01P_2/VRN_2 (io), D14 IO_L16P_2 (io), D15 IO_L17N_2 (io), D16 IO_L17P_2/VREF_2 (io), E13 IO_L19N_2 (io), E14 IO_L19P_2 (io), E15 IO_L20N_2 (io), E16 IO_L20P_2 (io), F12 IO_L21N_2 (io), F13 IO_L21P_2 (io), F14 IO_L22N_2 (io), F15 IO_L22P_2 (io), G12 IO_L23N_2/VREF_2 (io), G13 IO_L23P_2 (io), G14 IO_L24N_2 (io), G15 IO_L24P_2 (io), G16 IO (io), H13 IO_L39N_2 (io), H14 IO_L39P_2 (io), H15 IO_L40N_2 (io), H16 IO_L40P_2/VREF_2 (io)
part D pins: J13 IO_L39P_3 (io), J14 IO_L39N_3 (io), J16 IO_L40N_3/VREF_3 (io), K12 IO_L23N_3 (io), K13 IO_L24P_3 (io), K14 IO_L24N_3 (io), K15 IO (io), K16 IO_L40P_3 (io), L12 IO_L23P_3/VREF_3 (io), L13 IO_L21N_3 (io), L14 IO_L22P_3 (io), L15 IO_L22N_3 (io), M13 IO_L21P_3 (io), M14 IO_L19N_3 (io), M15 IO_L20P_3 (io), M16 IO_L20N_3 (io), N14 IO_L19P_3 (io), N15 IO_L17P_3/VREF_3 (io), N16 IO_L17N_3 (io), P14 IO_L16P_3 (io), P15 IO_L16N_3 (io), P16 IO_L01N_3/VRP_3 (io), R16 IO_L01P_3/VRN_3 (io)
part E pins: M10 IO_L29N_4 (io), M11 IO_L27N_4/DIN/D0 (io), N9 IO_L31N_4/INIT_B (io), N10 IO_L29P_4 (io), N11 IO_L27P_4/D1 (io), N12 IO/VREF_4 (io), P9 IO_L31P_4/DOUT/BUSY (io), P10 IO_L30N_4/D2 (io), P11 IO_L28N_4 (io), P12 IO_L25N_4 (io), P13 IO/VREF_4 (io), R9 IO_L32N_4/GCLK1 (io), R10 IO_L30P_4/D3 (io), R11 IO_L28P_4 (io), R12 IO_L25P_4 (io), R13 IO_L01N_4/VRP_4 (io), T9 IO_L32P_4/GCLK0 (io), T10 IO/VREF_4 (io), T12 IO (io), T13 IO_L01P_4/VRN_4 (io), T14 IO (io)
part F pins: M6 IO_L28P_5/D7 (io), M7 IO_L30P_5 (io), N5 IO (io), N6 IO_L28N_5/D6 (io), N7 IO_L30N_5 (io), N8 IO_L32P_5/GCLK2 (io), P5 IO_L27P_5 (io), P6 IO_L29P_5/VREF_5 (io), P7 IO (io), P8 IO_L32N_5/GCLK3 (io), R3 IO_L01P_5/CS_B (io), R4 IO_L10P_5/VRN_5 (io), R5 IO_L27N_5/VREF_5 (io), R6 IO_L29N_5 (io), R7 IO_L31P_5/D5 (io), T3 IO_L01N_5/RDWR_B (io), T4 IO_L10N_5/VRP_5 (io), T5 IO (io), T7 IO_L31N_5/D4 (io), T8 IO/VREF_5 (io)
part G pins: J1 IO_L40P_6/VREF_6 (io), J2 IO_L40N_6 (io), J3 IO_L39P_6 (io), J4 IO_L39N_6 (io), K1 IO (io), K2 IO_L24P_6 (io), K3 IO_L24N_6/VREF_6 (io), K4 IO_L23P_6 (io), K5 IO_L23N_6 (io), L2 IO_L22P_6 (io), L3 IO_L22N_6 (io), L4 IO_L21P_6 (io), L5 IO_L21N_6 (io), M1 IO_L20P_6 (io), M2 IO_L20N_6 (io), M3 IO_L19P_6 (io), M4 IO_L19N_6 (io), N1 IO_L17P_6/VREF_6 (io), N2 IO_L17N_6 (io), N3 IO_L16P_6 (io), P1 IO_L01P_6/VRN_6 (io), P2 IO_L16N_6 (io), R1 IO_L01N_6/VRP_6 (io)
part H pins: B1 IO_L01P_7/VRN_7 (io), C1 IO_L01N_7/VRP_7 (io), C2 IO_L16N_7 (io), C3 IO_L16P_7/VREF_7 (io), D1 IO_L17N_7 (io), D2 IO_L17P_7 (io), D3 IO_L19P_7 (io), E1 IO_L20N_7 (io), E2 IO_L20P_7 (io), E3 IO_L19N_7/VREF_7 (io), E4 IO_L21P_7 (io), F2 IO_L22N_7 (io), F3 IO_L22P_7 (io), F4 IO_L21N_7 (io), F5 IO_L23P_7 (io), G1 IO_L40P_7 (io), G2 IO (io), G3 IO_L24N_7 (io), G4 IO_L24P_7 (io), G5 IO_L23N_7 (io), H1 IO_L40N_7/VREF_7 (io), H3 IO_L39N_7 (io), H4 IO_L39P_7 (io)
part I pins: A2 TDI (in), A15 TDO (out), B3 PROG_B (in), C4 HSWAP_EN (in), C13 TMS (in), C14 TCK (in), P3 M0 (in), P4 M2 (in), R14 DONE (io), T2 M1 (in), T15 CCLK (io)
part J pins: A6 VCCAUX (power), A11 VCCAUX (power), D4 VCCINT (power), D13 VCCINT (power), E5 VCCINT (power), E8 VCCO_0 (power), E9 VCCO_1 (power), E12 VCCINT (power), F1 VCCAUX (power), F7 VCCO_0 (power), F8 VCCO_0 (power), F9 VCCO_1 (power), F10 VCCO_1 (power), F16 VCCAUX (power), G6 VCCO_7 (power), G11 VCCO_2 (power), H5 VCCO_7 (power), H6 VCCO_7 (power), H11 VCCO_2 (power), H12 VCCO_2 (power), J5 VCCO_6 (power), J6 VCCO_6 (power), J11 VCCO_3 (power), J12 VCCO_3 (power), K6 VCCO_6 (power), K11 VCCO_3 (power), L1 VCCAUX (power), L7 VCCO_5 (power), L8 VCCO_5 (power), L9 VCCO_4 (power), L10 VCCO_4 (power), L16 VCCAUX (power), M5 VCCINT (power), M8 VCCO_5 (power), M9 VCCO_4 (power), M12 VCCINT (power), N4 VCCINT (power), N13 VCCINT (power), T6 VCCAUX (power), T11 VCCAUX (power)
part K pins: A1 GND (power), A16 GND (power), B2 GND (power), B9 GND (power), B15 GND (power), F6 GND (power), F11 GND (power), G7 GND (power), G8 GND (power), G9 GND (power), G10 GND (power), H2 GND (power), H7 GND (power), H8 GND (power), H9 GND (power), H10 GND (power), J7 GND (power), J8 GND (power), J9 GND (power), J10 GND (power), J15 GND (power), K7 GND (power), K8 GND (power), K9 GND (power), K10 GND (power), L6 GND (power), L11 GND (power), R2 GND (power), R8 GND (power), R15 GND (power), T1 GND (power), T16 GND (power)
part A text: BANK 0
part B text: BANK 1
part C text: BANK 2
part D text: BANK 3
part E text: BANK 4
part F text: BANK 5
part G text: BANK 6
part H text: BANK 7

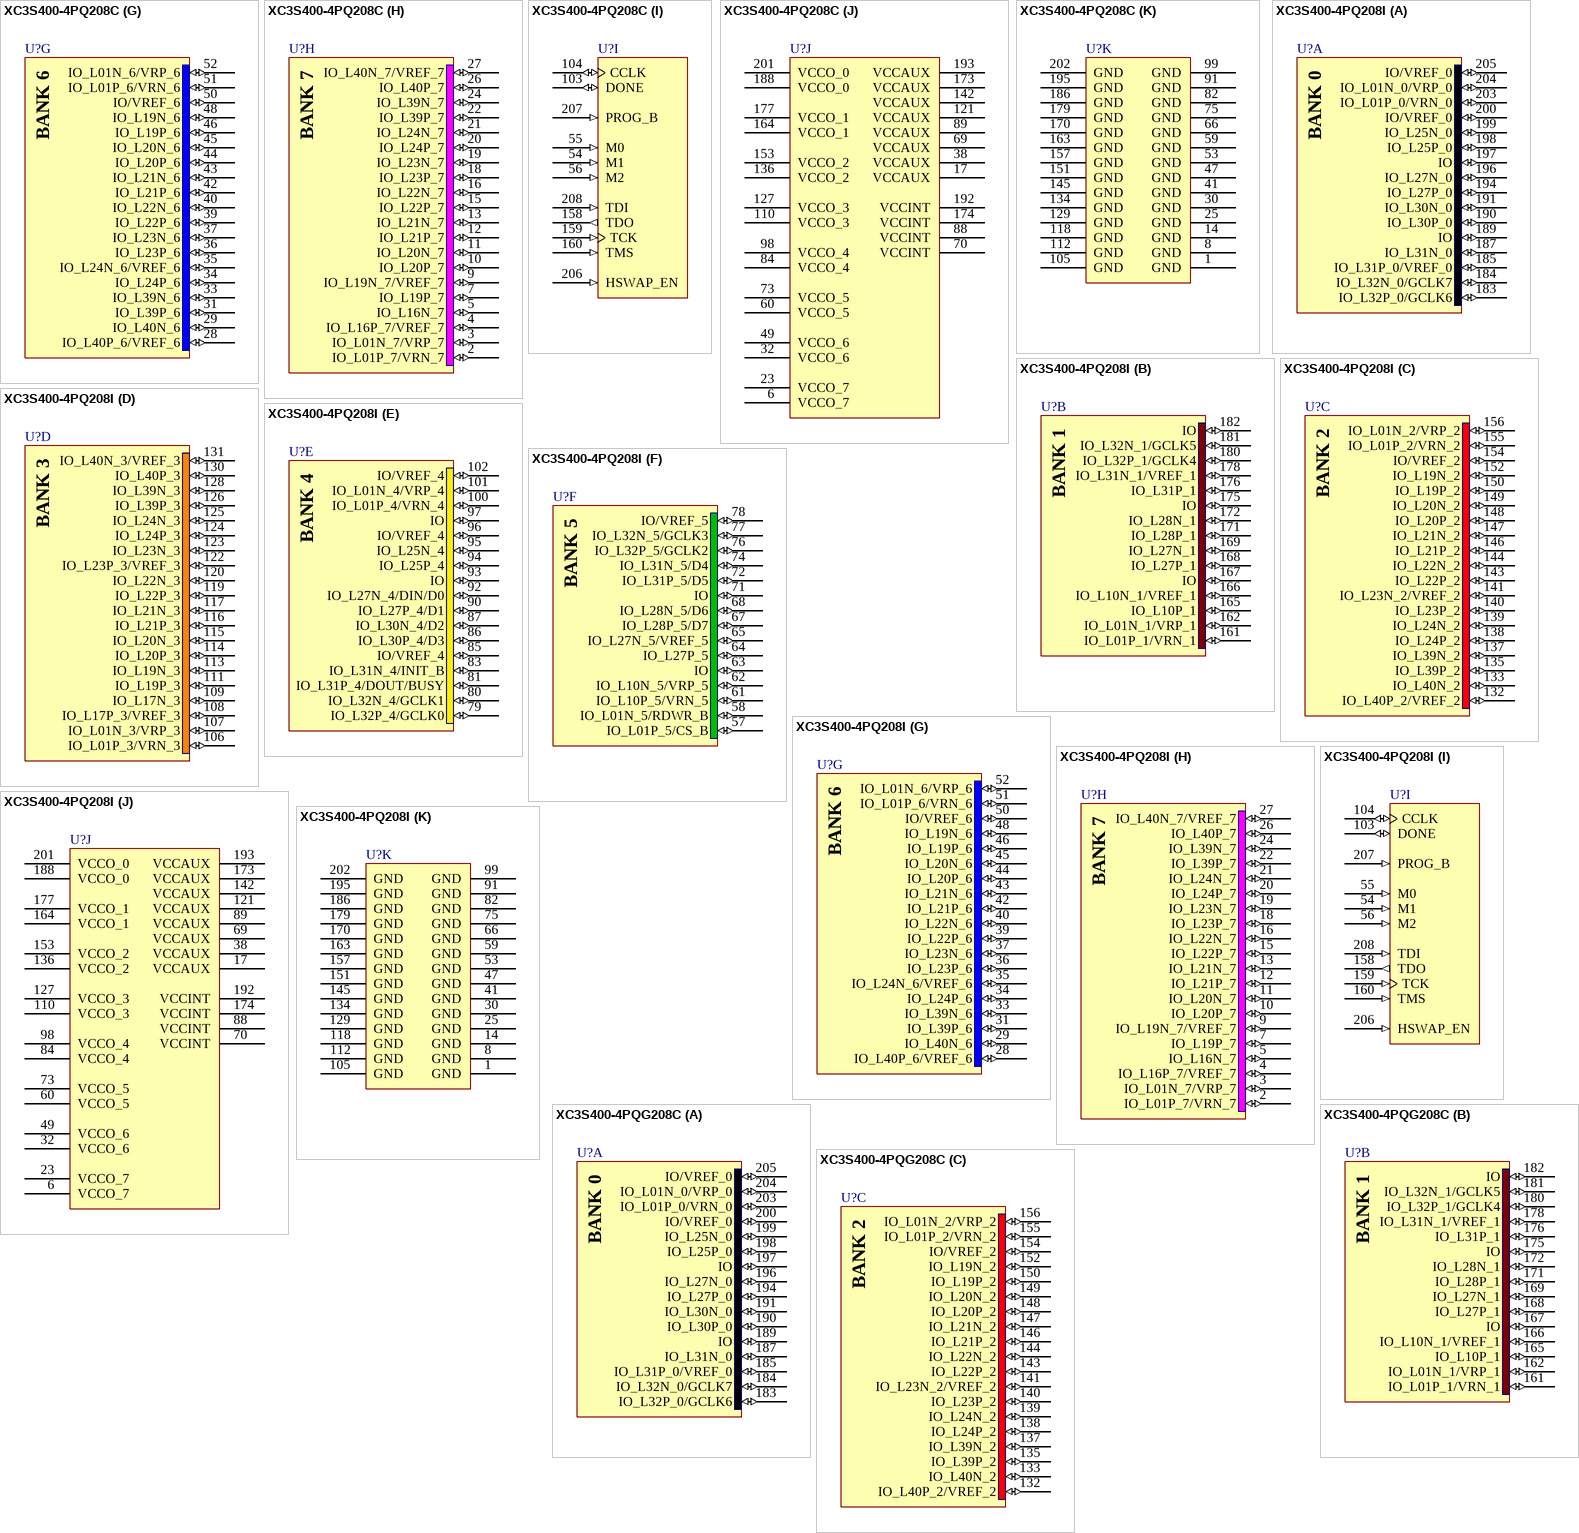
[diagram p32: symbols XC3S400-4PQ208C to XC3S400-4PQG208C]

## XC3S400-4PQ208C
designator U?
Spartan-3 1.2V FPGA, 141 User I/Os, 208-Pin PQFP, Standard Performance, Commercial Grade; OrderingInformation: Additional code may have to be appended for different mask revision devices.; DatasheetVersion: ver2.5, Dec-2009; PackageVersion: ver1.2, Jun-2004; PackageReference: PQ208; PackageDescription: 208-Pin Plastic Quad Flat Pack (PQ208); Code_JEDEC: MS-029-FA-1; ComponentLink1Description: Manufacturer URL; ComponentLink1URL: http://www.xilinx.com/; ComponentLink2Description: Spartan-3 Datasheet; ComponentLink2URL: http://www.xilinx.com/support/documentation/data_sheets/ds099.pdf; ComponentLink3Description: PQ208 Package Drawing; ComponentLink3URL: http://www.xilinx.com/support/documentation/package_specs/pq208.pdf; ComponentLink4Description: Spartan-3 Documents; ComponentLink4URL: http://www.xilinx.com/support/documentation/spartan-3.htm
footprint PQ208_N (Shrink QFP, 208-Leads, Body 28x28mm, Pitch 0.5mm, IPC Medium Density)
footprint PQ208_L (Shrink QFP, 208-Leads, Body 28x28mm, Pitch 0.5mm, IPC High Density)
footprint PQ208_M (Shrink QFP, 208-Leads, Body 28x28mm, Pitch 0.5mm, IPC Low Density)
part A pins: 183 IO_L32P_0/GCLK6 (io), 184 IO_L32N_0/GCLK7 (io), 185 IO_L31P_0/VREF_0 (io), 187 IO_L31N_0 (io), 189 IO (io), 190 IO_L30P_0 (io), 191 IO_L30N_0 (io), 194 IO_L27P_0 (io), 196 IO_L27N_0 (io), 197 IO (io), 198 IO_L25P_0 (io), 199 IO_L25N_0 (io), 200 IO/VREF_0 (io), 203 IO_L01P_0/VRN_0 (io), 204 IO_L01N_0/VRP_0 (io), 205 IO/VREF_0 (io)
part B pins: 161 IO_L01P_1/VRN_1 (io), 162 IO_L01N_1/VRP_1 (io), 165 IO_L10P_1 (io), 166 IO_L10N_1/VREF_1 (io), 167 IO (io), 168 IO_L27P_1 (io), 169 IO_L27N_1 (io), 171 IO_L28P_1 (io), 172 IO_L28N_1 (io), 175 IO (io), 176 IO_L31P_1 (io), 178 IO_L31N_1/VREF_1 (io), 180 IO_L32P_1/GCLK4 (io), 181 IO_L32N_1/GCLK5 (io), 182 IO (io)
part C pins: 132 IO_L40P_2/VREF_2 (io), 133 IO_L40N_2 (io), 135 IO_L39P_2 (io), 137 IO_L39N_2 (io), 138 IO_L24P_2 (io), 139 IO_L24N_2 (io), 140 IO_L23P_2 (io), 141 IO_L23N_2/VREF_2 (io), 143 IO_L22P_2 (io), 144 IO_L22N_2 (io), 146 IO_L21P_2 (io), 147 IO_L21N_2 (io), 148 IO_L20P_2 (io), 149 IO_L20N_2 (io), 150 IO_L19P_2 (io), 152 IO_L19N_2 (io), 154 IO/VREF_2 (io), 155 IO_L01P_2/VRN_2 (io), 156 IO_L01N_2/VRP_2 (io)
part D pins: 106 IO_L01P_3/VRN_3 (io), 107 IO_L01N_3/VRP_3 (io), 108 IO_L17P_3/VREF_3 (io), 109 IO_L17N_3 (io), 111 IO_L19P_3 (io), 113 IO_L19N_3 (io), 114 IO_L20P_3 (io), 115 IO_L20N_3 (io), 116 IO_L21P_3 (io), 117 IO_L21N_3 (io), 119 IO_L22P_3 (io), 120 IO_L22N_3 (io), 122 IO_L23P_3/VREF_3 (io), 123 IO_L23N_3 (io), 124 IO_L24P_3 (io), 125 IO_L24N_3 (io), 126 IO_L39P_3 (io), 128 IO_L39N_3 (io), 130 IO_L40P_3 (io), 131 IO_L40N_3/VREF_3 (io)
part E pins: 79 IO_L32P_4/GCLK0 (io), 80 IO_L32N_4/GCLK1 (io), 81 IO_L31P_4/DOUT/BUSY (io), 83 IO_L31N_4/INIT_B (io), 85 IO/VREF_4 (io), 86 IO_L30P_4/D3 (io), 87 IO_L30N_4/D2 (io), 90 IO_L27P_4/D1 (io), 92 IO_L27N_4/DIN/D0 (io), 93 IO (io), 94 IO_L25P_4 (io), 95 IO_L25N_4 (io), 96 IO/VREF_4 (io), 97 IO (io), 100 IO_L01P_4/VRN_4 (io), 101 IO_L01N_4/VRP_4 (io), 102 IO/VREF_4 (io)
part F pins: 57 IO_L01P_5/CS_B (io), 58 IO_L01N_5/RDWR_B (io), 61 IO_L10P_5/VRN_5 (io), 62 IO_L10N_5/VRP_5 (io), 63 IO (io), 64 IO_L27P_5 (io), 65 IO_L27N_5/VREF_5 (io), 67 IO_L28P_5/D7 (io), 68 IO_L28N_5/D6 (io), 71 IO (io), 72 IO_L31P_5/D5 (io), 74 IO_L31N_5/D4 (io), 76 IO_L32P_5/GCLK2 (io), 77 IO_L32N_5/GCLK3 (io), 78 IO/VREF_5 (io)
part G pins: 28 IO_L40P_6/VREF_6 (io), 29 IO_L40N_6 (io), 31 IO_L39P_6 (io), 33 IO_L39N_6 (io), 34 IO_L24P_6 (io), 35 IO_L24N_6/VREF_6 (io), 36 IO_L23P_6 (io), 37 IO_L23N_6 (io), 39 IO_L22P_6 (io), 40 IO_L22N_6 (io), 42 IO_L21P_6 (io), 43 IO_L21N_6 (io), 44 IO_L20P_6 (io), 45 IO_L20N_6 (io), 46 IO_L19P_6 (io), 48 IO_L19N_6 (io), 50 IO/VREF_6 (io), 51 IO_L01P_6/VRN_6 (io), 52 IO_L01N_6/VRP_6 (io)
part H pins: 2 IO_L01P_7/VRN_7 (io), 3 IO_L01N_7/VRP_7 (io), 4 IO_L16P_7/VREF_7 (io), 5 IO_L16N_7 (io), 7 IO_L19P_7 (io), 9 IO_L19N_7/VREF_7 (io), 10 IO_L20P_7 (io), 11 IO_L20N_7 (io), 12 IO_L21P_7 (io), 13 IO_L21N_7 (io), 15 IO_L22P_7 (io), 16 IO_L22N_7 (io), 18 IO_L23P_7 (io), 19 IO_L23N_7 (io), 20 IO_L24P_7 (io), 21 IO_L24N_7 (io), 22 IO_L39P_7 (io), 24 IO_L39N_7 (io), 26 IO_L40P_7 (io), 27 IO_L40N_7/VREF_7 (io)
part I pins: 54 M1 (in), 55 M0 (in), 56 M2 (in), 103 DONE (io), 104 CCLK (io), 158 TDO (out), 159 TCK (in), 160 TMS (in), 206 HSWAP_EN (in), 207 PROG_B (in), 208 TDI (in)
part J pins: 6 VCCO_7 (power), 17 VCCAUX (power), 23 VCCO_7 (power), 32 VCCO_6 (power), 38 VCCAUX (power), 49 VCCO_6 (power), 60 VCCO_5 (power), 69 VCCAUX (power), 70 VCCINT (power), 73 VCCO_5 (power), 84 VCCO_4 (power), 88 VCCINT (power), 89 VCCAUX (power), 98 VCCO_4 (power), 110 VCCO_3 (power), 121 VCCAUX (power), 127 VCCO_3 (power), 136 VCCO_2 (power), 142 VCCAUX (power), 153 VCCO_2 (power), 164 VCCO_1 (power), 173 VCCAUX (power), 174 VCCINT (power), 177 VCCO_1 (power), 188 VCCO_0 (power), 192 VCCINT (power), 193 VCCAUX (power), 201 VCCO_0 (power)
part K pins: 1 GND (power), 8 GND (power), 14 GND (power), 25 GND (power), 30 GND (power), 41 GND (power), 47 GND (power), 53 GND (power), 59 GND (power), 66 GND (power), 75 GND (power), 82 GND (power), 91 GND (power), 99 GND (power), 105 GND (power), 112 GND (power), 118 GND (power), 129 GND (power), 134 GND (power), 145 GND (power), 151 GND (power), 157 GND (power), 163 GND (power), 170 GND (power), 179 GND (power), 186 GND (power), 195 GND (power), 202 GND (power)
part A text: BANK 0
part B text: BANK 1
part C text: BANK 2
part D text: BANK 3
part E text: BANK 4
part F text: BANK 5
part G text: BANK 6
part H text: BANK 7

## XC3S400-4PQ208I
designator U?
Spartan-3 1.2V FPGA, 141 User I/Os, 208-Pin PQFP, Standard Performance, Industrial Grade; OrderingInformation: Additional code may have to be appended for different mask revision devices.; DatasheetVersion: ver2.5, Dec-2009; PackageVersion: ver1.2, Jun-2004; PackageReference: PQ208; PackageDescription: 208-Pin Plastic Quad Flat Pack (PQ208); Code_JEDEC: MS-029-FA-1; ComponentLink1Description: Manufacturer URL; ComponentLink1URL: http://www.xilinx.com/; ComponentLink2Description: Spartan-3 Datasheet; ComponentLink2URL: http://www.xilinx.com/support/documentation/data_sheets/ds099.pdf; ComponentLink3Description: PQ208 Package Drawing; ComponentLink3URL: http://www.xilinx.com/support/documentation/package_specs/pq208.pdf; ComponentLink4Description: Spartan-3 Documents; ComponentLink4URL: http://www.xilinx.com/support/documentation/spartan-3.htm
footprint PQ208_N (Shrink QFP, 208-Leads, Body 28x28mm, Pitch 0.5mm, IPC Medium Density)
footprint PQ208_L (Shrink QFP, 208-Leads, Body 28x28mm, Pitch 0.5mm, IPC High Density)
footprint PQ208_M (Shrink QFP, 208-Leads, Body 28x28mm, Pitch 0.5mm, IPC Low Density)
part A pins: 183 IO_L32P_0/GCLK6 (io), 184 IO_L32N_0/GCLK7 (io), 185 IO_L31P_0/VREF_0 (io), 187 IO_L31N_0 (io), 189 IO (io), 190 IO_L30P_0 (io), 191 IO_L30N_0 (io), 194 IO_L27P_0 (io), 196 IO_L27N_0 (io), 197 IO (io), 198 IO_L25P_0 (io), 199 IO_L25N_0 (io), 200 IO/VREF_0 (io), 203 IO_L01P_0/VRN_0 (io), 204 IO_L01N_0/VRP_0 (io), 205 IO/VREF_0 (io)
part B pins: 161 IO_L01P_1/VRN_1 (io), 162 IO_L01N_1/VRP_1 (io), 165 IO_L10P_1 (io), 166 IO_L10N_1/VREF_1 (io), 167 IO (io), 168 IO_L27P_1 (io), 169 IO_L27N_1 (io), 171 IO_L28P_1 (io), 172 IO_L28N_1 (io), 175 IO (io), 176 IO_L31P_1 (io), 178 IO_L31N_1/VREF_1 (io), 180 IO_L32P_1/GCLK4 (io), 181 IO_L32N_1/GCLK5 (io), 182 IO (io)
part C pins: 132 IO_L40P_2/VREF_2 (io), 133 IO_L40N_2 (io), 135 IO_L39P_2 (io), 137 IO_L39N_2 (io), 138 IO_L24P_2 (io), 139 IO_L24N_2 (io), 140 IO_L23P_2 (io), 141 IO_L23N_2/VREF_2 (io), 143 IO_L22P_2 (io), 144 IO_L22N_2 (io), 146 IO_L21P_2 (io), 147 IO_L21N_2 (io), 148 IO_L20P_2 (io), 149 IO_L20N_2 (io), 150 IO_L19P_2 (io), 152 IO_L19N_2 (io), 154 IO/VREF_2 (io), 155 IO_L01P_2/VRN_2 (io), 156 IO_L01N_2/VRP_2 (io)
part D pins: 106 IO_L01P_3/VRN_3 (io), 107 IO_L01N_3/VRP_3 (io), 108 IO_L17P_3/VREF_3 (io), 109 IO_L17N_3 (io), 111 IO_L19P_3 (io), 113 IO_L19N_3 (io), 114 IO_L20P_3 (io), 115 IO_L20N_3 (io), 116 IO_L21P_3 (io), 117 IO_L21N_3 (io), 119 IO_L22P_3 (io), 120 IO_L22N_3 (io), 122 IO_L23P_3/VREF_3 (io), 123 IO_L23N_3 (io), 124 IO_L24P_3 (io), 125 IO_L24N_3 (io), 126 IO_L39P_3 (io), 128 IO_L39N_3 (io), 130 IO_L40P_3 (io), 131 IO_L40N_3/VREF_3 (io)
part E pins: 79 IO_L32P_4/GCLK0 (io), 80 IO_L32N_4/GCLK1 (io), 81 IO_L31P_4/DOUT/BUSY (io), 83 IO_L31N_4/INIT_B (io), 85 IO/VREF_4 (io), 86 IO_L30P_4/D3 (io), 87 IO_L30N_4/D2 (io), 90 IO_L27P_4/D1 (io), 92 IO_L27N_4/DIN/D0 (io), 93 IO (io), 94 IO_L25P_4 (io), 95 IO_L25N_4 (io), 96 IO/VREF_4 (io), 97 IO (io), 100 IO_L01P_4/VRN_4 (io), 101 IO_L01N_4/VRP_4 (io), 102 IO/VREF_4 (io)
part F pins: 57 IO_L01P_5/CS_B (io), 58 IO_L01N_5/RDWR_B (io), 61 IO_L10P_5/VRN_5 (io), 62 IO_L10N_5/VRP_5 (io), 63 IO (io), 64 IO_L27P_5 (io), 65 IO_L27N_5/VREF_5 (io), 67 IO_L28P_5/D7 (io), 68 IO_L28N_5/D6 (io), 71 IO (io), 72 IO_L31P_5/D5 (io), 74 IO_L31N_5/D4 (io), 76 IO_L32P_5/GCLK2 (io), 77 IO_L32N_5/GCLK3 (io), 78 IO/VREF_5 (io)
part G pins: 28 IO_L40P_6/VREF_6 (io), 29 IO_L40N_6 (io), 31 IO_L39P_6 (io), 33 IO_L39N_6 (io), 34 IO_L24P_6 (io), 35 IO_L24N_6/VREF_6 (io), 36 IO_L23P_6 (io), 37 IO_L23N_6 (io), 39 IO_L22P_6 (io), 40 IO_L22N_6 (io), 42 IO_L21P_6 (io), 43 IO_L21N_6 (io), 44 IO_L20P_6 (io), 45 IO_L20N_6 (io), 46 IO_L19P_6 (io), 48 IO_L19N_6 (io), 50 IO/VREF_6 (io), 51 IO_L01P_6/VRN_6 (io), 52 IO_L01N_6/VRP_6 (io)
part H pins: 2 IO_L01P_7/VRN_7 (io), 3 IO_L01N_7/VRP_7 (io), 4 IO_L16P_7/VREF_7 (io), 5 IO_L16N_7 (io), 7 IO_L19P_7 (io), 9 IO_L19N_7/VREF_7 (io), 10 IO_L20P_7 (io), 11 IO_L20N_7 (io), 12 IO_L21P_7 (io), 13 IO_L21N_7 (io), 15 IO_L22P_7 (io), 16 IO_L22N_7 (io), 18 IO_L23P_7 (io), 19 IO_L23N_7 (io), 20 IO_L24P_7 (io), 21 IO_L24N_7 (io), 22 IO_L39P_7 (io), 24 IO_L39N_7 (io), 26 IO_L40P_7 (io), 27 IO_L40N_7/VREF_7 (io)
part I pins: 54 M1 (in), 55 M0 (in), 56 M2 (in), 103 DONE (io), 104 CCLK (io), 158 TDO (out), 159 TCK (in), 160 TMS (in), 206 HSWAP_EN (in), 207 PROG_B (in), 208 TDI (in)
part J pins: 6 VCCO_7 (power), 17 VCCAUX (power), 23 VCCO_7 (power), 32 VCCO_6 (power), 38 VCCAUX (power), 49 VCCO_6 (power), 60 VCCO_5 (power), 69 VCCAUX (power), 70 VCCINT (power), 73 VCCO_5 (power), 84 VCCO_4 (power), 88 VCCINT (power), 89 VCCAUX (power), 98 VCCO_4 (power), 110 VCCO_3 (power), 121 VCCAUX (power), 127 VCCO_3 (power), 136 VCCO_2 (power), 142 VCCAUX (power), 153 VCCO_2 (power), 164 VCCO_1 (power), 173 VCCAUX (power), 174 VCCINT (power), 177 VCCO_1 (power), 188 VCCO_0 (power), 192 VCCINT (power), 193 VCCAUX (power), 201 VCCO_0 (power)
part K pins: 1 GND (power), 8 GND (power), 14 GND (power), 25 GND (power), 30 GND (power), 41 GND (power), 47 GND (power), 53 GND (power), 59 GND (power), 66 GND (power), 75 GND (power), 82 GND (power), 91 GND (power), 99 GND (power), 105 GND (power), 112 GND (power), 118 GND (power), 129 GND (power), 134 GND (power), 145 GND (power), 151 GND (power), 157 GND (power), 163 GND (power), 170 GND (power), 179 GND (power), 186 GND (power), 195 GND (power), 202 GND (power)
part A text: BANK 0
part B text: BANK 1
part C text: BANK 2
part D text: BANK 3
part E text: BANK 4
part F text: BANK 5
part G text: BANK 6
part H text: BANK 7

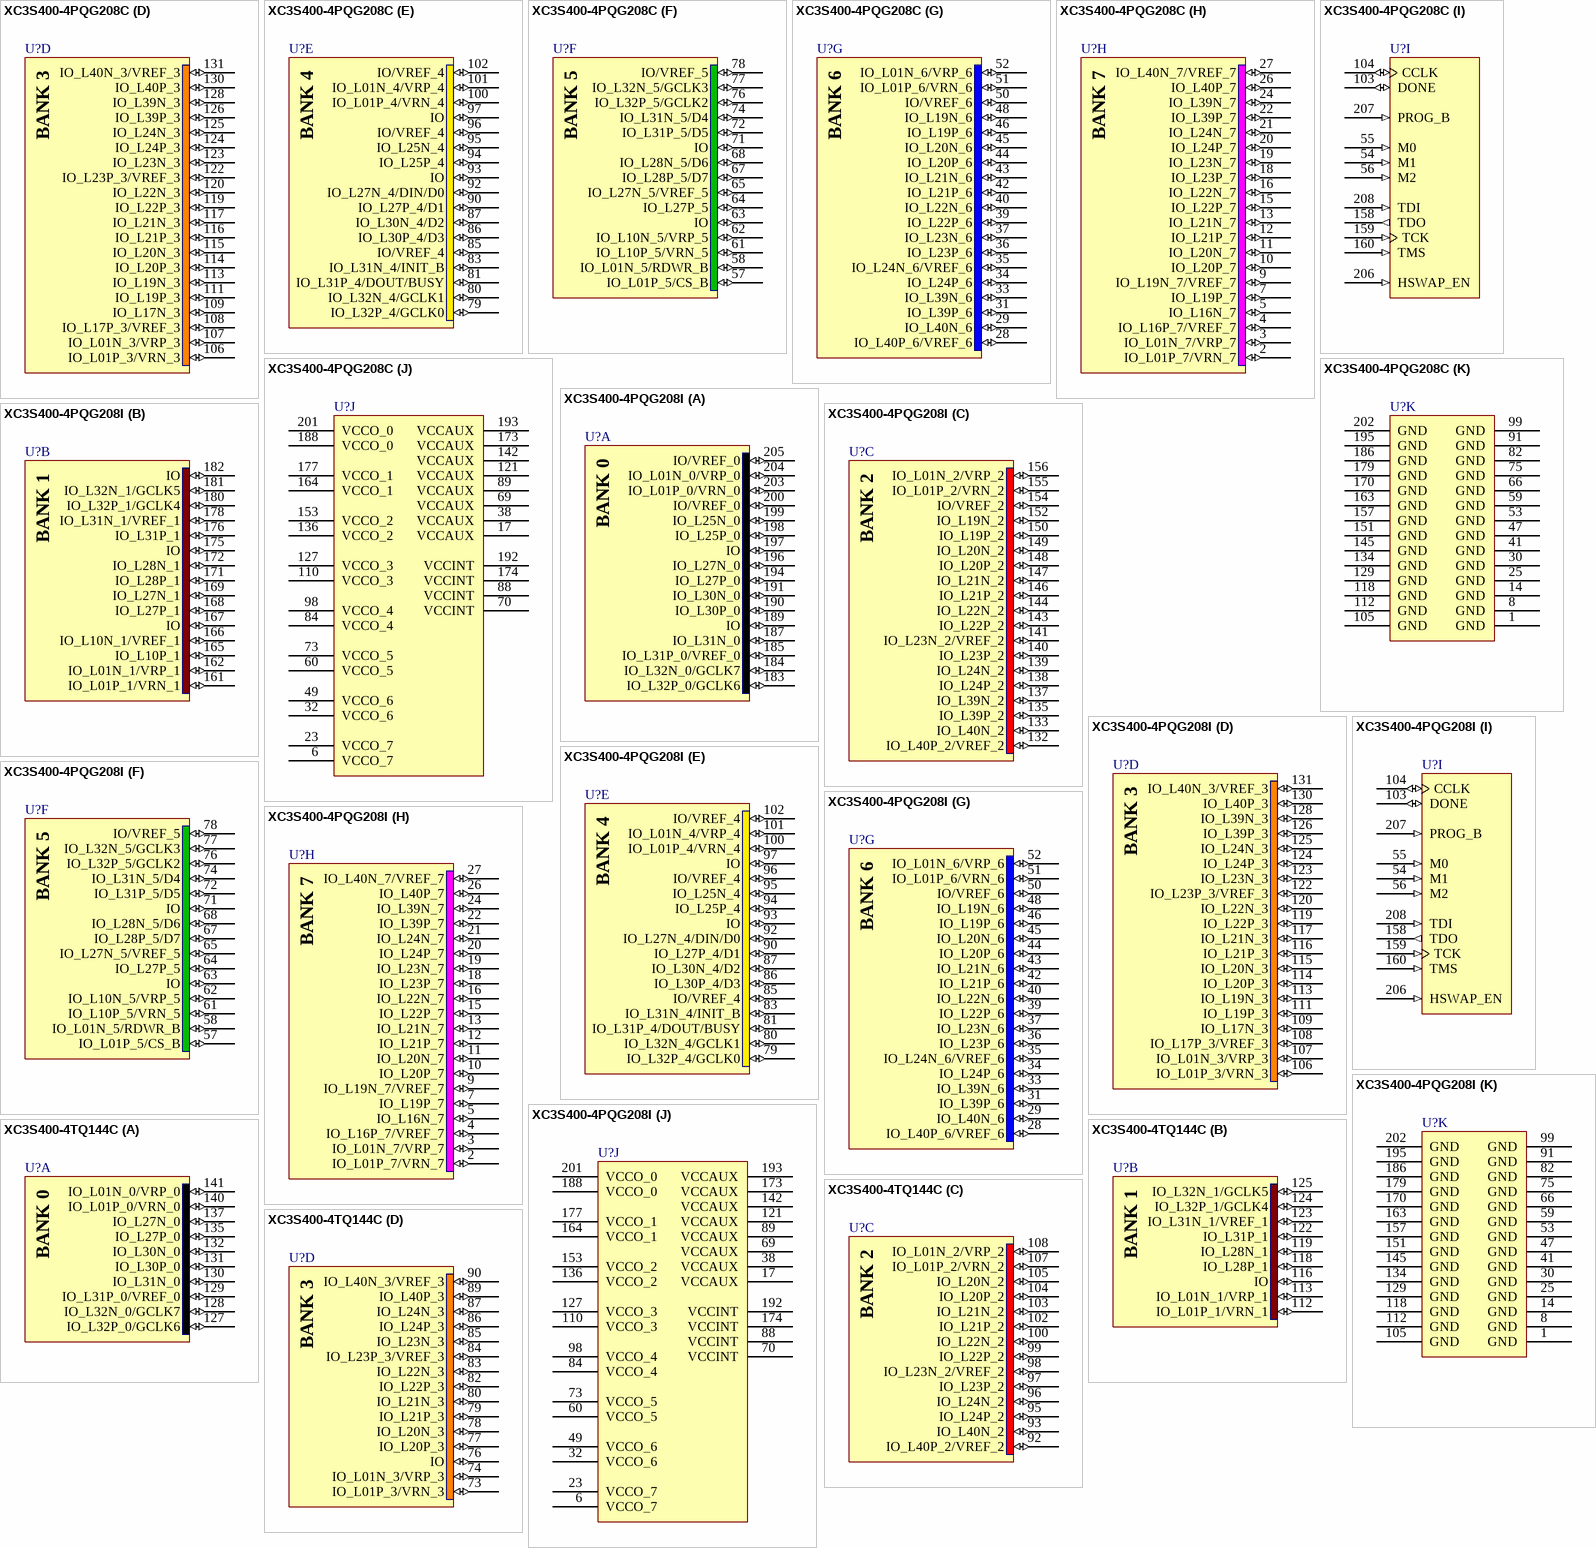
[diagram p33: symbols XC3S400-4PQG208C to XC3S400-4TQ144C]